# Altium schematic symbol library radxa_c200_io_board_v1.11_Library.SchLib: 111 symbols (part 1 of 2)
Pins are listed as number, name and electrical type; pins without a type are passive.

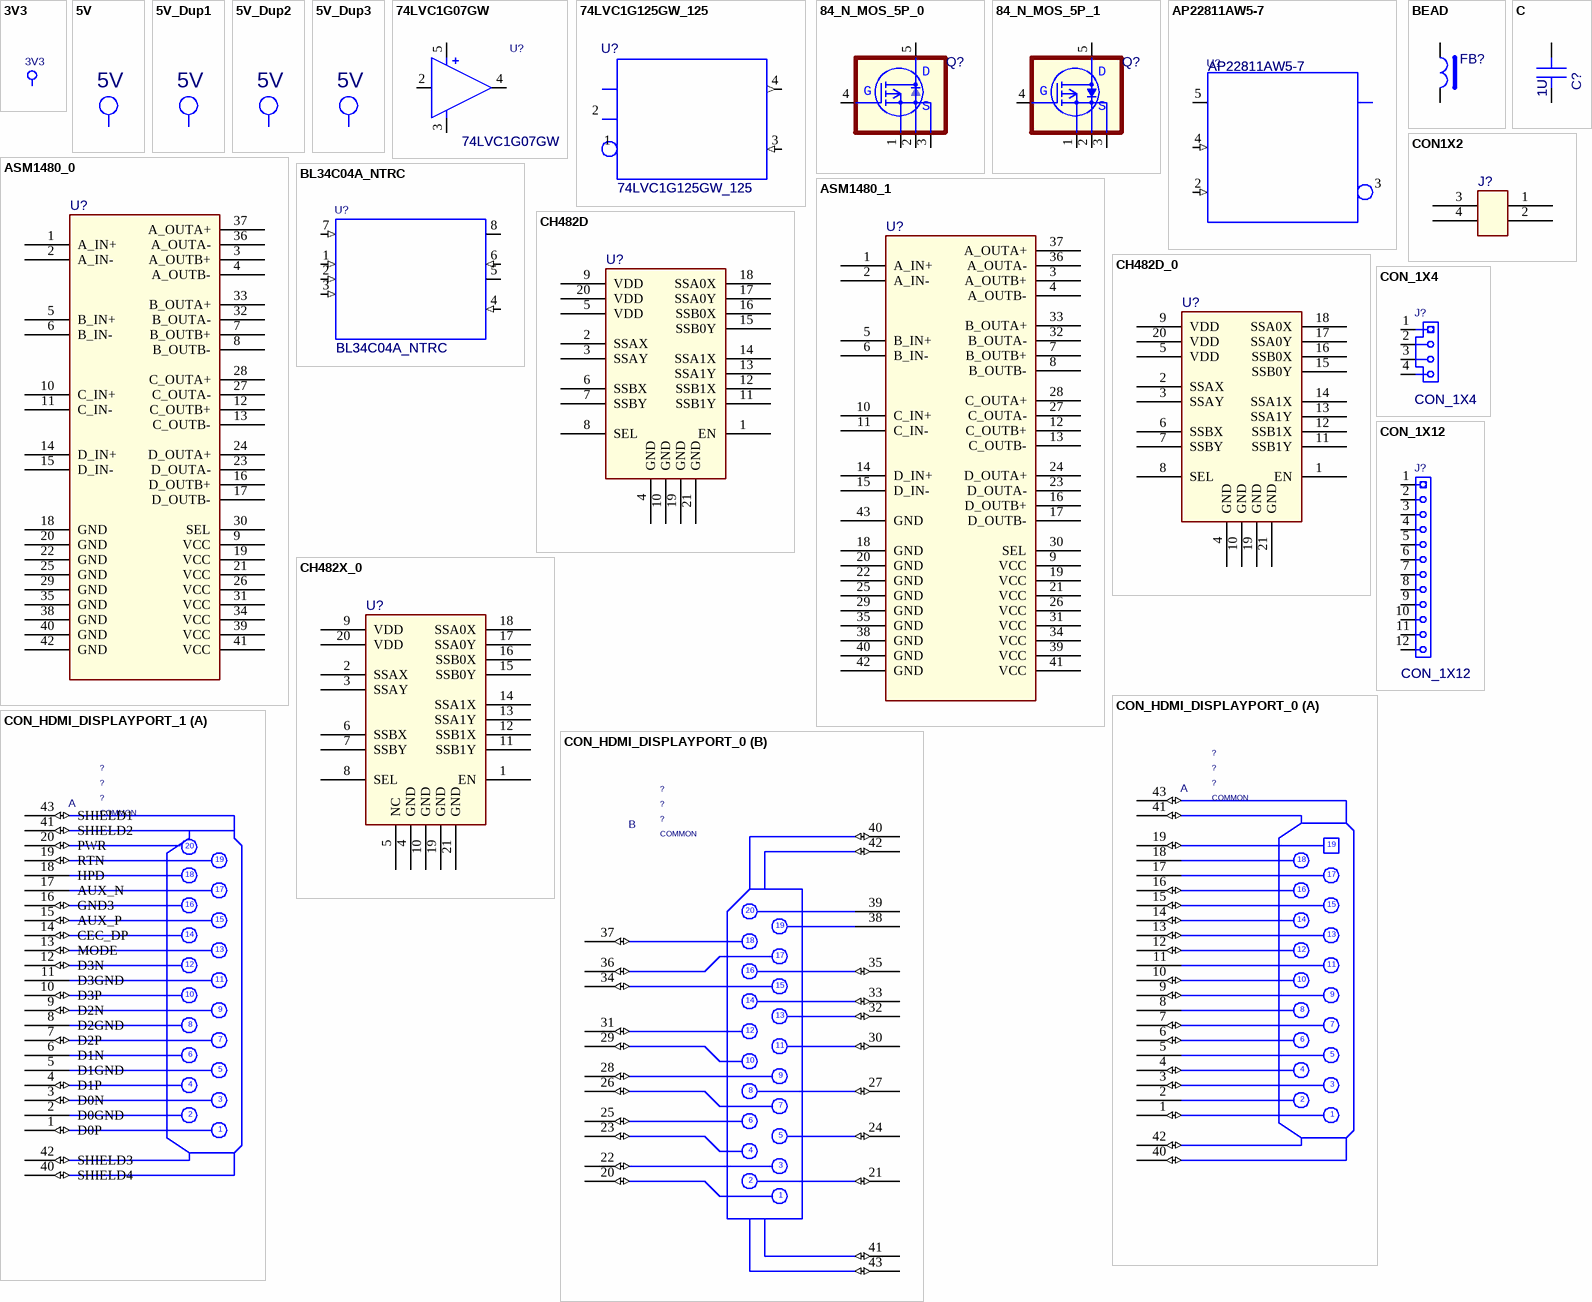
[diagram p0: symbols 3V3 to CON_HDMI_DISPLAYPORT_1]

## 3V3
designator *  HDL_POWER: 3V3  (hidden comment: *)  (graphical)
VOLTAGE: 3.3V; BODY_TYPE: PLUMBING; OriginalSymbolOrigin: (-50,0); PATH: ?
pins: $PIN0 (power) hidden to $PIN0

## 5V
designator *  HDL_POWER: 5V  (hidden comment: *)  (graphical)
BODY_TYPE: PLUMBING; OriginalSymbolOrigin: (-25,0); VOLTAGE: 5V; PATH: ?
pins: $PIN0 (power) hidden to $PIN0

## 5V_Dup1
designator *  HDL_POWER: 5V  (hidden comment: *)  (graphical)
BODY_TYPE: PLUMBING; OriginalSymbolOrigin: (-25,0); VOLTAGE: 5V; PATH: ?
pins: $PIN0 (power) hidden to $PIN0

## 5V_Dup2
designator *  HDL_POWER: 5V  (hidden comment: *)  (graphical)
OriginalSymbolOrigin: (-25,0); BODY_TYPE: PLUMBING; PATH: ?; VOLTAGE: 5V
pins: $PIN0 (power) hidden to $PIN0

## 5V_Dup3
designator *  HDL_POWER: 5V  (hidden comment: *)  (graphical)
OriginalSymbolOrigin: (-25,0); BODY_TYPE: PLUMBING; PATH: ?; VOLTAGE: 5V
pins: $PIN0 (power) hidden to $PIN0

## 74LVC1G07GW
designator U?
OriginalSymbolOrigin: (-100,100); NC: 1; SKU: COMMON; PLACEMENT_NOTE: ?; PATH: ?; PACK_TYPE: ?; NV_PN: ?; NV_NAME: ?; FUNCTION: ?; ASSEMBLY: ?; Value: 74LVC1G07GW
footprint SC70_5
pins: 2 A (io), 3 GND (io), 4 Y (io), 5 VCC (power)

## 74LVC1G125GW_125
designator U?
OriginalSymbolOrigin: (-300,200); ASSEMBLY: ?; FUNCTION: ?; NV_NAME: ?; NV_PN: ?; PACK_TYPE: ?; PATH: ?; PLACEMENT_NOTE: ?; SKU: COMMON; Value: 74LVC1G125GW_125
footprint SC70_5
pins: 1 OE* (in), 2 IN (in), 3 GND (in), 4 OUT (out), 5 VCC (power) hidden to VCC

## 84_N_MOS_5P_0
designator Q?
pins: 1 S1, 2 S2, 3 S3, 4 G, 5 D
text: S

## 84_N_MOS_5P_1
designator Q?
pins: 1 S1, 2 S2, 3 S3, 4 G, 5 D
text: S

## AP22811AW5-7
designator U?
OriginalSymbolOrigin: (-250,250); ASSEMBLY: ?; MAX_CURRENT: ?; MAX_VOLTAGE: ?; NV_NAME: ?; NV_PN: ?; OUTPUT_VOLTAGE: ?; PACK_TYPE: ?; PATH: ?; PLACEMENT_NOTE: ?; SKU: COMMON; TYPE: ?; Value: AP22811AW5-7
footprint SOT23_5
pins: 1 OUT (power) hidden to OUT, 2 GND (in), 3 OC* (out), 4 EN (in), 5 IN (power)

## ASM1480_0
designator U?
footprint QFN42
pins: 1 A_IN+, 2 A_IN-, 3 A_OUTB+, 4 A_OUTB-, 5 B_IN+, 6 B_IN-, 7 B_OUTB+, 8 B_OUTB-, 9 VCC (power), 10 C_IN+, 11 C_IN-, 12 C_OUTB+, 13 C_OUTB-, 14 D_IN+, 15 D_IN-, 16 D_OUTB+, 17 D_OUTB-, 18 GND (power), 19 VCC (power), 20 GND (power), 21 VCC (power), 22 GND (power), 23 D_OUTA-, 24 D_OUTA+, 25 GND (power), 26 VCC (power), 27 C_OUTA-, 28 C_OUTA+, 29 GND (power), 30 SEL, 31 VCC (power), 32 B_OUTA-, 33 B_OUTA+, 34 VCC (power), 35 GND (power), 36 A_OUTA-, 37 A_OUTA+, 38 GND (power), 39 VCC (power), 40 GND (power), 41 VCC (power), 42 GND (power)

## ASM1480_1
designator U?
footprint QFN42
pins: 1 A_IN+, 2 A_IN-, 3 A_OUTB+, 4 A_OUTB-, 5 B_IN+, 6 B_IN-, 7 B_OUTB+, 8 B_OUTB-, 9 VCC (power), 10 C_IN+, 11 C_IN-, 12 C_OUTB+, 13 C_OUTB-, 14 D_IN+, 15 D_IN-, 16 D_OUTB+, 17 D_OUTB-, 18 GND (power), 19 VCC (power), 20 GND (power), 21 VCC (power), 22 GND (power), 23 D_OUTA-, 24 D_OUTA+, 25 GND (power), 26 VCC (power), 27 C_OUTA-, 28 C_OUTA+, 29 GND (power), 30 SEL, 31 VCC (power), 32 B_OUTA-, 33 B_OUTA+, 34 VCC (power), 35 GND (power), 36 A_OUTA-, 37 A_OUTA+, 38 GND (power), 39 VCC (power), 40 GND (power), 41 VCC (power), 42 GND (power), 43 GND (power)

## BEAD
designator FB?
pins: 1, 2

## BL34C04A_NTRC
designator U?
OriginalSymbolOrigin: (-250,200); SPEED_GRADE: ?; SKU: COMMON; POW: ?; PLACEMENT_NOTE: ?; PATH: ?; PACK_TYPE: ?; NV_PN: ?; NV_NAME: ?; ASSEMBLY: ?; Value: BL34C04A_NTRC
footprint DFN8_0D5_1D6
pins: 1 A0 (in), 2 A1 (in), 3 A2 (in), 4 GND (in), 5 SDA (io), 6 SCL (in), 7 WP (in), 8 VCC (power)

## C
designator C?, comment 1U
PARTS: 1; OriginalSymbolOrigin: (0,30); PKG_TYPE: CAP2-100-250; LEVEL: STD; PINSWAP: (A,B); Value: 1U
pins: 1 A, 2 B

## CH482D
designator U?
footprint QFN20_0D5_2D5
pins: 1 EN, 2 SSAX, 3 SSAY, 4 GND (power), 5 VDD (power), 6 SSBX, 7 SSBY, 8 SEL, 9 VDD (power), 10 GND (power), 11 SSB1Y, 12 SSB1X, 13 SSA1Y, 14 SSA1X, 15 SSB0Y, 16 SSB0X, 17 SSA0Y, 18 SSA0X, 19 GND (power), 20 VDD (power), 21 GND (power)

## CH482D_0
designator U?
footprint QFN20_0D5_2D5
pins: 1 EN, 2 SSAX, 3 SSAY, 4 GND (power), 5 VDD (power), 6 SSBX, 7 SSBY, 8 SEL, 9 VDD (power), 10 GND (power), 11 SSB1Y, 12 SSB1X, 13 SSA1Y, 14 SSA1X, 15 SSB0Y, 16 SSB0X, 17 SSA0Y, 18 SSA0X, 19 GND (power), 20 VDD (power), 21 GND (power)

## CH482X_0
designator U?
footprint QFN20_0D5_2D5
pins: 1 EN, 2 SSAX, 3 SSAY, 4 GND (power), 5 NC, 6 SSBX, 7 SSBY, 8 SEL, 9 VDD (power), 10 GND (power), 11 SSB1Y, 12 SSB1X, 13 SSA1Y, 14 SSA1X, 15 SSB0Y, 16 SSB0X, 17 SSA0Y, 18 SSA0X, 19 GND (power), 20 VDD (power), 21 GND (power)

## CON1X2
designator J?
pins: 1, 2, 3, 4

## CON_1X4
designator J?
OriginalSymbolOrigin: (-50,50); ANGLE: ?; ASSEMBLY: ?; GENDER: ?; LATCHING: ?; MAX_CURRENT: ?; MAX_VOLTAGE: ?; NV_NAME: ?; NV_PN: ?; PACK_TYPE: ?; PATH: ?; PITCH: ?; PLACEMENT_NOTE: ?; REFLOW: ?; SHROUDED: ?; SKU: COMMON; Value: CON_1X4
footprint CON_TH1X4_1D25_STA
pins: 1 (io), 2 (io), 3 (io), 4 (io)

## CON_1X12
designator J?
OriginalSymbolOrigin: (0,300); ANGLE: ?; ASSEMBLY: ?; GENDER: ?; LATCHING: ?; MAX_CURRENT: ?; MAX_VOLTAGE: ?; NV_NAME: ?; NV_PN: ?; PACK_TYPE: ?; PATH: ?; PITCH: ?; PLACEMENT_NOTE: ?; REFLOW: ?; SHROUDED: ?; SKU: COMMON; Value: CON_1X12
footprint CON_TH12X1_2D54_LIE
pins: 1 (io), 2 (io), 3 (io), 4 (io), 5 (io), 6 (io), 7 (io), 8 (io), 9 (io), 10 (io), 11 (io), 12 (io)

## CON_HDMI_DISPLAYPORT_0
designator ?, comment SKU: COMMON  (hidden comment: CON_HDMI_DISPLAYPORT)
OriginalSymbolOrigin: (-450,800); SHROUDED: ?; SHIELDED: ?; REFLOW: ?; PLACEMENT_NOTE: ?; PITCH: ?; PATH: ?; PACK_TYPE: ?; NV_PN: ?; NV_NAME: ?; MAX_VOLTAGE: ?; MAX_CURRENT: ?; LATCHING: ?; GENDER: ?; EMI_GROUND_TAB: ?; ASSEMBLY: ?; ANGLE: ?; Value: CON_HDMI_DISPLAYPORT
part A pins: 1 D2 (io), 2 D2_SHIELD (power), 3 D2* (io), 4 D1 (io), 5 D1_SHIELD (power), 6 D1* (io), 7 D0 (io), 8 D0_SHIELD (power), 9 D0* (io), 10 CK (io), 11 CK_SHIELD (power), 12 CK* (io), 13 CEC_HDMI (io), 14 RESERVED (io), 15 SCL (io), 16 SDA (io), 17 DDC_CEC_GND (power), 18 5V (power), 19 HP_DET (io), 40 SHIELD4 (io), 41 SHIELD2 (io), 42 SHIELD3 (io), 43 SHIELD1 (io)
part B pins: 20 LANE_0P (io), 21 GND_1 (io), 22 LANE_0N (io), 23 LANE_1P (io), 24 GND_2 (io), 25 LANE_1N (io), 26 LANE_2P (io), 27 GND_3 (io), 28 LANE_2N (io), 29 LANE_3P (io), 30 GND_4 (io), 31 LANE_3N (io), 32 MODE (io), 33 CEC_DP (io), 34 AUXP (io), 35 GND_7 (io), 36 AUXN (io), 37 HPD (io), 38 PWR_RET (power), 39 PWR (power), 40 SHIELD4 (io), 41 SHIELD2 (io), 42 SHIELD3 (io), 43 SHIELD1 (io)

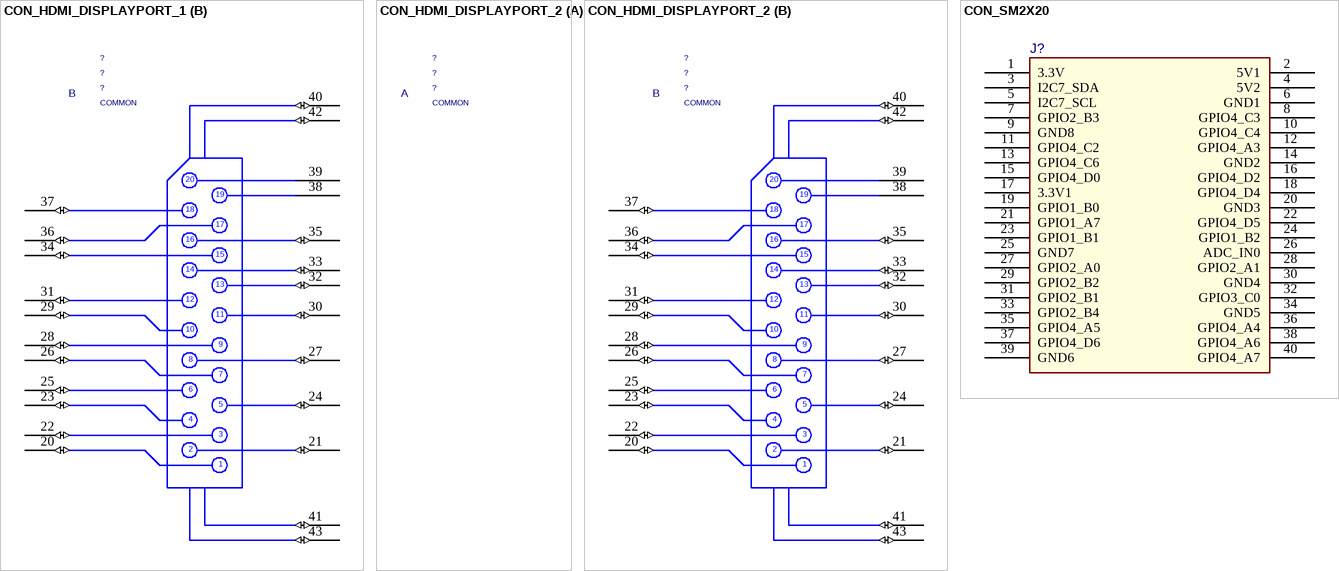
[diagram p1: symbols CON_HDMI_DISPLAYPORT_1 to CON_SM2X20]

## CON_HDMI_DISPLAYPORT_1
designator ?, comment SKU: COMMON  (hidden comment: CON_HDMI_DISPLAYPORT)
OriginalSymbolOrigin: (-450,800); SHROUDED: ?; SHIELDED: ?; REFLOW: ?; PLACEMENT_NOTE: ?; PITCH: ?; PATH: ?; PACK_TYPE: ?; NV_PN: ?; NV_NAME: ?; MAX_VOLTAGE: ?; MAX_CURRENT: ?; LATCHING: ?; GENDER: ?; EMI_GROUND_TAB: ?; ASSEMBLY: ?; ANGLE: ?; Value: CON_HDMI_DISPLAYPORT
part A pins: 1 D0P (io), 2 D0GND (power), 3 D0N (io), 4 D1P (io), 5 D1GND (power), 6 D1N (power), 7 D2P (io), 8 D2GND (power), 9 D2N (io), 10 D3P (io), 11 D3GND (power), 12 D3N (io), 13 MODE (io), 14 CEC_DP (io), 15 AUX_P (io), 16 GND3 (io), 17 AUX_N (power), 18 HPD (power), 19 RTN (io), 20 PWR (io), 40 SHIELD4 (io), 41 SHIELD2 (io), 42 SHIELD3 (io), 43 SHIELD1 (io)
part B pins: 20 LANE_0P (io), 21 GND_1 (io), 22 LANE_0N (io), 23 LANE_1P (io), 24 GND_2 (io), 25 LANE_1N (io), 26 LANE_2P (io), 27 GND_3 (io), 28 LANE_2N (io), 29 LANE_3P (io), 30 GND_4 (io), 31 LANE_3N (io), 32 MODE (io), 33 CEC_DP (io), 34 AUXP (io), 35 GND_7 (io), 36 AUXN (io), 37 HPD (io), 38 PWR_RET (power), 39 PWR (power), 40 SHIELD4 (io), 41 SHIELD2 (io), 42 SHIELD3 (io), 43 SHIELD1 (io)

## CON_HDMI_DISPLAYPORT_2
designator ?, comment SKU: COMMON  (hidden comment: CON_HDMI_DISPLAYPORT)
OriginalSymbolOrigin: (-450,800); SHROUDED: ?; SHIELDED: ?; REFLOW: ?; PLACEMENT_NOTE: ?; PITCH: ?; PATH: ?; PACK_TYPE: ?; NV_PN: ?; NV_NAME: ?; MAX_VOLTAGE: ?; MAX_CURRENT: ?; LATCHING: ?; GENDER: ?; EMI_GROUND_TAB: ?; ASSEMBLY: ?; ANGLE: ?; Value: CON_HDMI_DISPLAYPORT
part B pins: 20 LANE_0P (io), 21 GND_1 (io), 22 LANE_0N (io), 23 LANE_1P (io), 24 GND_2 (io), 25 LANE_1N (io), 26 LANE_2P (io), 27 GND_3 (io), 28 LANE_2N (io), 29 LANE_3P (io), 30 GND_4 (io), 31 LANE_3N (io), 32 MODE (io), 33 CEC_DP (io), 34 AUXP (io), 35 GND_7 (io), 36 AUXN (io), 37 HPD (io), 38 PWR_RET (power), 39 PWR (power), 40 SHIELD4 (io), 41 SHIELD2 (io), 42 SHIELD3 (io), 43 SHIELD1 (io)
part B text: 19; 18; 17; 16; 15; 14; 13; 12; 11; 10; 9; 8; 7; 6; 5; 4; 3; 2; 1

## CON_SM2X20
designator J?
pins: 1 3.3V, 2 5V1, 3 I2C7_SDA, 4 5V2, 5 I2C7_SCL, 6 GND1, 7 GPIO2_B3, 8 GPIO4_C3, 9 GND8, 10 GPIO4_C4, 11 GPIO4_C2, 12 GPIO4_A3, 13 GPIO4_C6, 14 GND2, 15 GPIO4_D0, 16 GPIO4_D2, 17 3.3V1, 18 GPIO4_D4, 19 GPIO1_B0, 20 GND3, 21 GPIO1_A7, 22 GPIO4_D5, 23 GPIO1_B1, 24 GPIO1_B2, 25 GND7, 26 ADC_IN0, 27 GPIO2_A0, 28 GPIO2_A1, 29 GPIO2_B2, 30 GND4, 31 GPIO2_B1, 32 GPIO3_C0, 33 GPIO2_B4, 34 GND5, 35 GPIO4_A5, 36 GPIO4_A4, 37 GPIO4_D6, 38 GPIO4_A6, 39 GND6, 40 GPIO4_A7

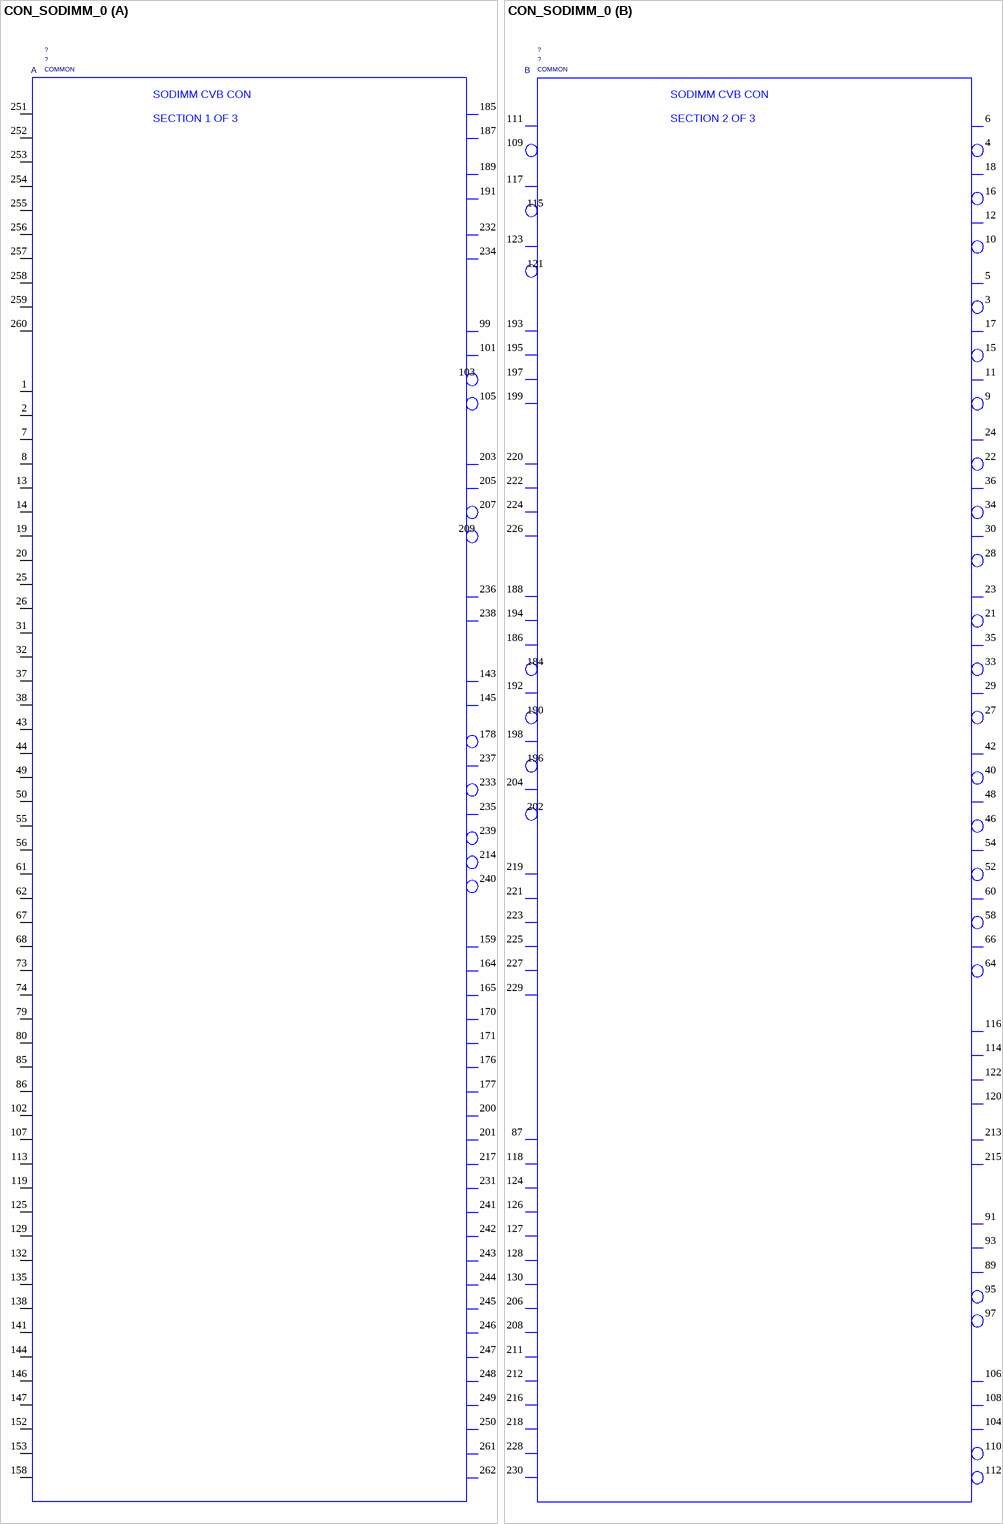
[diagram p2: symbol CON_SODIMM_0]

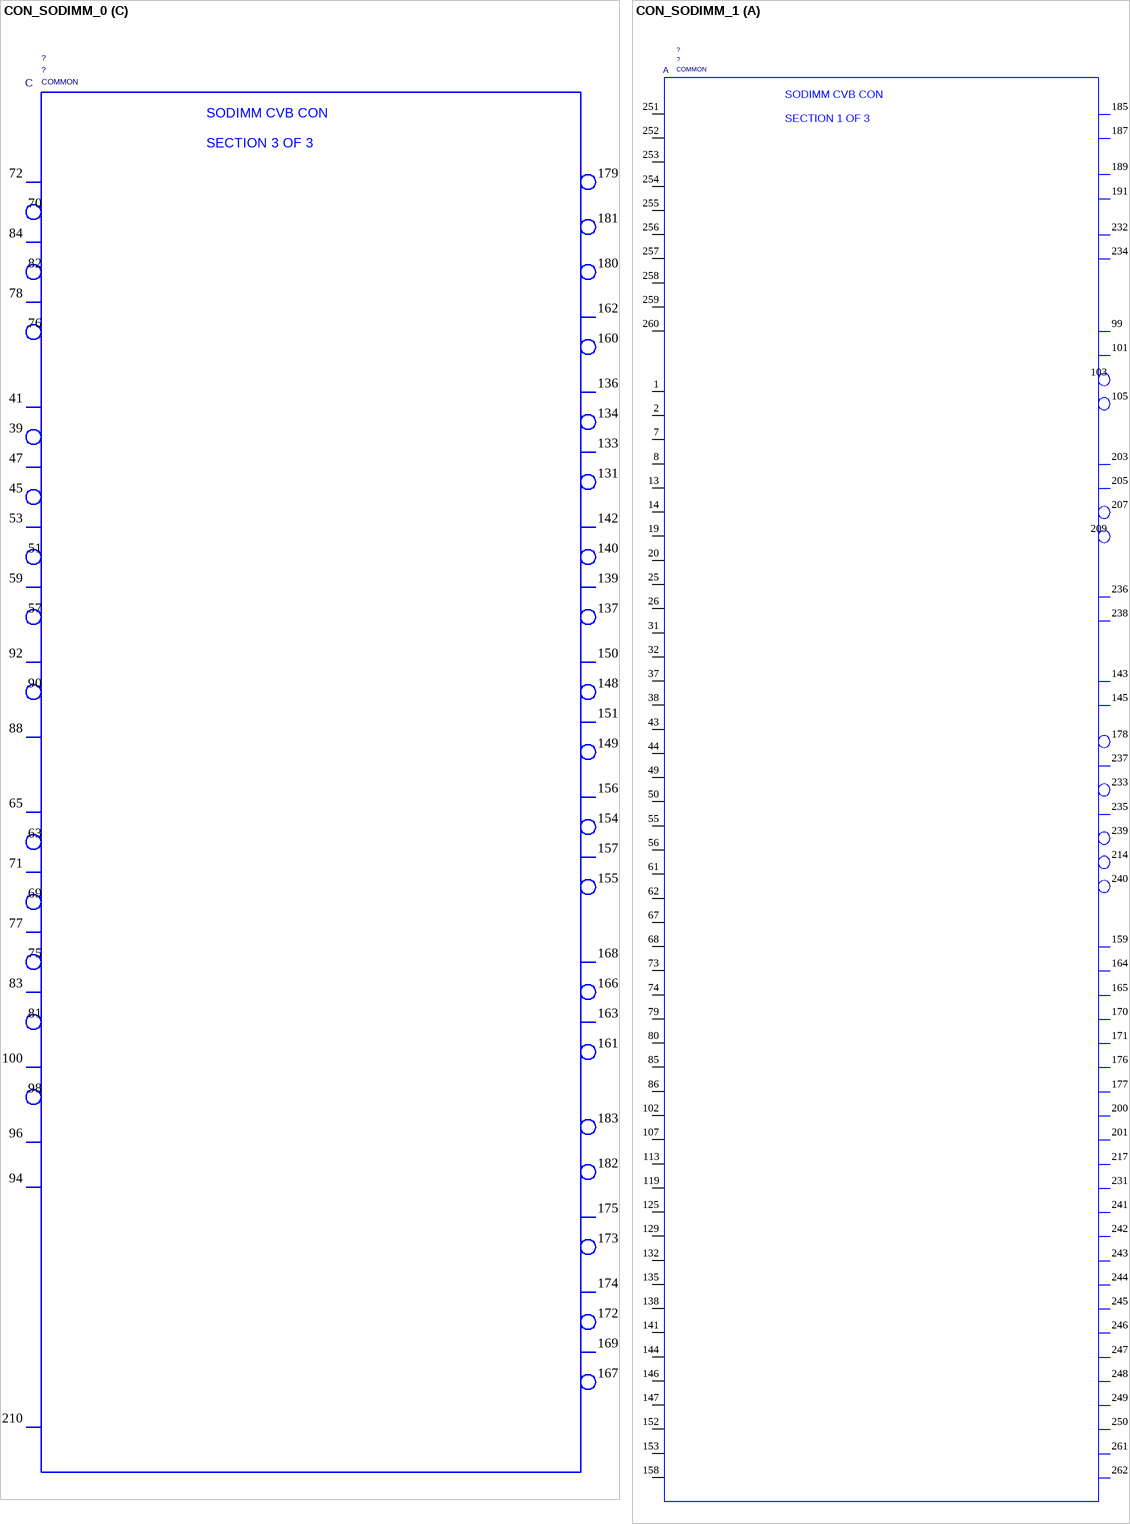
[diagram p3: symbols CON_SODIMM_0 to CON_SODIMM_1]

## CON_SODIMM_0
designator ?, comment SKU: COMMON  (hidden comment: CON_SODIMM_260)
OriginalSymbolOrigin: (-950,2300); ANGLE: ?; ASSEMBLY: ?; EMI_GROUND_TAB: ?; GENDER: ?; LATCHING: ?; MAX_CURRENT: ?; MAX_VOLTAGE: ?; NV_NAME: ?; NV_PN: ?; PACK_TYPE: ?; PATH: ?; PITCH: ?; PLACEMENT_NOTE: ?; REFLOW: ?; SHIELDED: ?; SHROUDED: ?; Value: CON_SODIMM_260
part A pins: 1 GND1 (io), 2 GND2 (io), 7 GND3 (io), 8 GND4 (io), 13 GND5 (io), 14 GND6 (io), 19 GND7 (io), 20 GND8 (io), 25 GND9 (io), 26 GND10 (io), 31 GND11 (io), 32 GND12 (io), 37 GND13 (io), 38 GND14 (io), 43 GND15 (io), 44 GND16 (io), 49 GND17 (io), 50 GND18 (io), 55 GND19 (io), 56 GND20 (io), 61 GND21 (io), 62 GND22 (io), 67 GND23 (io), 68 GND24 (io), 73 GND25 (io), 74 GND26 (io), 79 GND27 (io), 80 GND28 (io), 85 GND29 (io), 86 GND30 (io), 99 UART3_TXD (io), 101 UART3_RXD (io), 102 GND31 (io), 103 UART3_RTS (io), 105 UART3_CTS (io), 107 GND32 (io), 113 GND33 (io), 119 GND34 (io), 125 GND35 (io), 129 GND36 (io), 132 GND37 (io), 135 GND38 (io), 138 GND39 (io), 141 GND40 (io), 143 CAN_RX (io), 144 GND41 (io), 145 CAN_TX (io), 146 GND42 (io), 147 GND43 (io), 152 GND44 (io), 153 GND45 (io), 158 GND46 (io), 159 GND47 (io), 164 GND48 (io), 165 GND49 (io), 170 GND50 (io), 171 GND51 (io), 176 GND52 (io), 177 GND53 (io), 178 GPIO_PA6 (io), 185 GEN1_I2C_SCL (io), 187 GEN1_I2C_SDA (io), 189 GEN2_I2C_SCL (io), 191 GEN2_I2C_SDA (io), 200 GND54 (io), 201 GND55 (io), 203 UART2_TXD (io), 205 UART2_RXD (io), 207 UART2_RTS (io), 209 UART2_CTS (io), 214 FORCE_RECOVERY* (io), 217 GND56-MODULE-ID (io), 231 GND57 (io), 232 GEN3_I2C_SCL (io), 233 SHUTDOWN_REQ* (io), 234 GEN3_I2C_SDA (io), 235 PMIC_BBAT (io), 236 UART1_TXD (io), 237 POWER_EN (io), 238 UART1_RXD (io), 239 SYS_RESET_IN* (io), 240 BUTTON_PWR_ON* (io), 241 GND58 (io), 242 GND59 (io), 243 GND60 (io), 244 GND61 (io), 245 GND62 (io), 246 GND63 (io), 247 GND64 (io), 248 GND65 (io), 249 GND66 (io), 250 GND67 (io), 251 VDD_IN1 (power), 252 VDD_IN2 (power), 253 VDD_IN3 (power), 254 VDD_IN4 (power), 255 VDD_IN5 (power), 256 VDD_IN6 (power), 257 VDD_IN7 (power), 258 VDD_IN8 (power), 259 VDD_IN9 (power), 260 VDD_IN10 (power), 261 MNT1 (io), 262 MNT2 (io)
part B pins: 3 CSI_B_D0_N (io), 4 CSI_A_D0_N (io), 5 CSI_B_D0_P (io), 6 CSI_A_D0_P (io), 9 CSI_B_CLK_N (io), 10 CSI_A_CLK_N (io), 11 CSI_B_CLK_P (io), 12 CSI_A_CLK_P (io), 15 CSI_B_D1_N (io), 16 CSI_A_D1_N (io), 17 CSI_B_D1_P (io), 18 CSI_A_D1_P (io), 21 CSI_F_D0_N (io), 22 CSI_E_D0_N (io), 23 CSI_F_D0_P (io), 24 CSI_E_D0_P (io), 27 CSI_F_CLK_N (io), 28 CSI_E_CLK_N (io), 29 CSI_F_CLK_P (io), 30 CSI_E_CLK_P (io), 33 CSI_F_D1_N (io), 34 CSI_E_D1_N (io), 35 CSI_F_D1_P (io), 36 CSI_E_D1_P (io), 40 CSI_D_D0_N (io), 42 CSI_D_D0_P (io), 46 CSI_C_D0_N (io), 48 CSI_C_D0_P (io), 52 CSI_C_CLK_N (io), 54 CSI_C_CLK_P (io), 58 CSI_C_D1_N (io), 60 CSI_C_D1_P (io), 64 CSI_D_D1_N (io), 66 CSI_D_D1_P (io), 87 USB_VBUS_EN0 (io), 89 SPI1_MOSI (io), 91 SPI1_SCK (io), 93 SPI1_MISO (io), 95 SPI1_CS0 (io), 97 SPI1_CS1 (io), 104 SPI2_MOSI (io), 106 SPI2_SCK (io), 108 SPI2_MISO (io), 109 USB0_DN (io), 110 SPI2_CS0 (io), 111 USB0_DP (io), 112 SPI2_CS1 (io), 114 CAM1_PWDN (io), 115 USB1_DN (io), 116 CAM1_MCLK (io), 117 USB1_DP (io), 118 CAM_AF_EN (io), 120 CAM2_PWDN (io), 121 USB2_DN (io), 122 CAM2_MCLK (io), 123 USB2_DP (io), 124 GPIO_PH6 (io), 126 GPS_EN (io), 127 NFC_INT (io), 128 AP_WAKE_NFC (io), 130 NFC_EN (io), 184 GBE_MDI0_N (io), 186 GBE_MDI0_P (io), 188 GBE_LED0 (io), 190 GBE_MDI1_N (io), 192 GBE_MDI1_P (io), 193 DAP4_DOUT (io), 194 GBE_LED1 (io), 195 DAP4_DIN (io), 196 GBE_MDI2_N (io), 197 DAP4_FS (io), 198 GBE_MDI2_P (io), 199 DAP4_SCLK (io), 202 GBE_MDI3_N (io), 204 GBE_MDI3_P (io), 206 LCD_BL_PWM (io), 208 GPIO_PZ2 (io), 211 AUD_MCLK (io), 212 LCD_BL_EN (io), 213 CAM_I2C_SCL (io), 215 CAM_I2C_SDA (io), 216 GPIO_PZ0 (io), 218 LCD_TE (io), 219 SDMMC3_DAT0 (io), 220 DAP3_DOUT (io), 221 SDMMC3_DAT1 (io), 222 DAP3_DIN (io), 223 SDMMC3_DAT2 (io), 224 DAP3_FS (io), 225 SDMMC3_DAT3 (io), 226 DAP3_SCLK (io), 227 SDMMC3_CMD (io), 228 GPIO_PE6 (io), 229 SDMMC3_CLK (io), 230 GPIO_PE7 (io)
part C pins: 39 EDP_TXD0_N (io), 41 EDP_TXD0_P (io), 45 EDP_TXD1_N (io), 47 EDP_TXD1_P (io), 51 EDP_TXD2_N (io), 53 EDP_TXD2_P (io), 57 EDP_TXD3_N (io), 59 EDP_TXD3_P (io), 63 HDMI_TXD0_N (io), 65 HDMI_TXD0_P (io), 69 HDMI_TXD1_N (io), 70 DSI_A_D0_N (io), 71 HDMI_TXD1_P (io), 72 DSI_A_D0_P (io), 75 HDMI_TXD2_N (io), 76 DSI_A_CLK_N (io), 77 HDMI_TXD2_P (io), 78 DSI_A_CLK_P (io), 81 HDMI_TXC_N (io), 82 DSI_A_D1_N (io), 83 HDMI_TXC_P (io), 84 DSI_A_D1_P (io), 88 DP_HPD (io), 90 DP_AUX_CH0_N (io), 92 DP_AUX_CH0_P (io), 94 HDMI_CEC (io), 96 HDMI_INT_DP_HPD (io), 98 DP_AUX_CH1_N (io), 100 DP_AUX_CH1_P (io), 131 PEX_RX4_N (io), 133 PEX_RX4_P (io), 134 PEX_TX4_N (io), 136 PEX_TX4_P (io), 137 PEX_RX3_N (io), 139 PEX_RX3_P (io), 140 PEX_TX3_N (io), 142 PEX_TX3_P (io), 148 PEX_TX2_N (io), 149 PEX_RX2_N (io), 150 PEX_TX2_P (io), 151 PEX_RX2_P (io), 154 PEX_TX1_N (io), 155 PEX_RX1_N (io), 156 PEX_TX1_P (io), 157 PEX_RX1_P (io), 160 PEX_CLK1_N (io), 161 PEX_RX6_N (io), 162 PEX_CLK1_P (io), 163 PEX_RX6_P (io), 166 PEX_TX6_N (io), 167 PEX_RX0_N (io), 168 PEX_TX6_P (io), 169 PEX_RX0_P (io), 172 PEX_TX0_N (io), 173 PEX_CLK2_N (io), 174 PEX_TX0_P (io), 175 PEX_CLK2_P (io), 179 PEX_WAKE (io), 180 PEX_L0_CLKREQ (io), 181 PEX_L0_RST (io), 182 PEX_L1_CLKREQ (io), 183 PEX_L1_RST (io), 210 CLK_32K_OUT (io)
part A text: SODIMM CVB CON; SECTION 1 OF 3
part B text: SODIMM CVB CON; SECTION 2 OF 3
part C text: SODIMM CVB CON; SECTION 3 OF 3

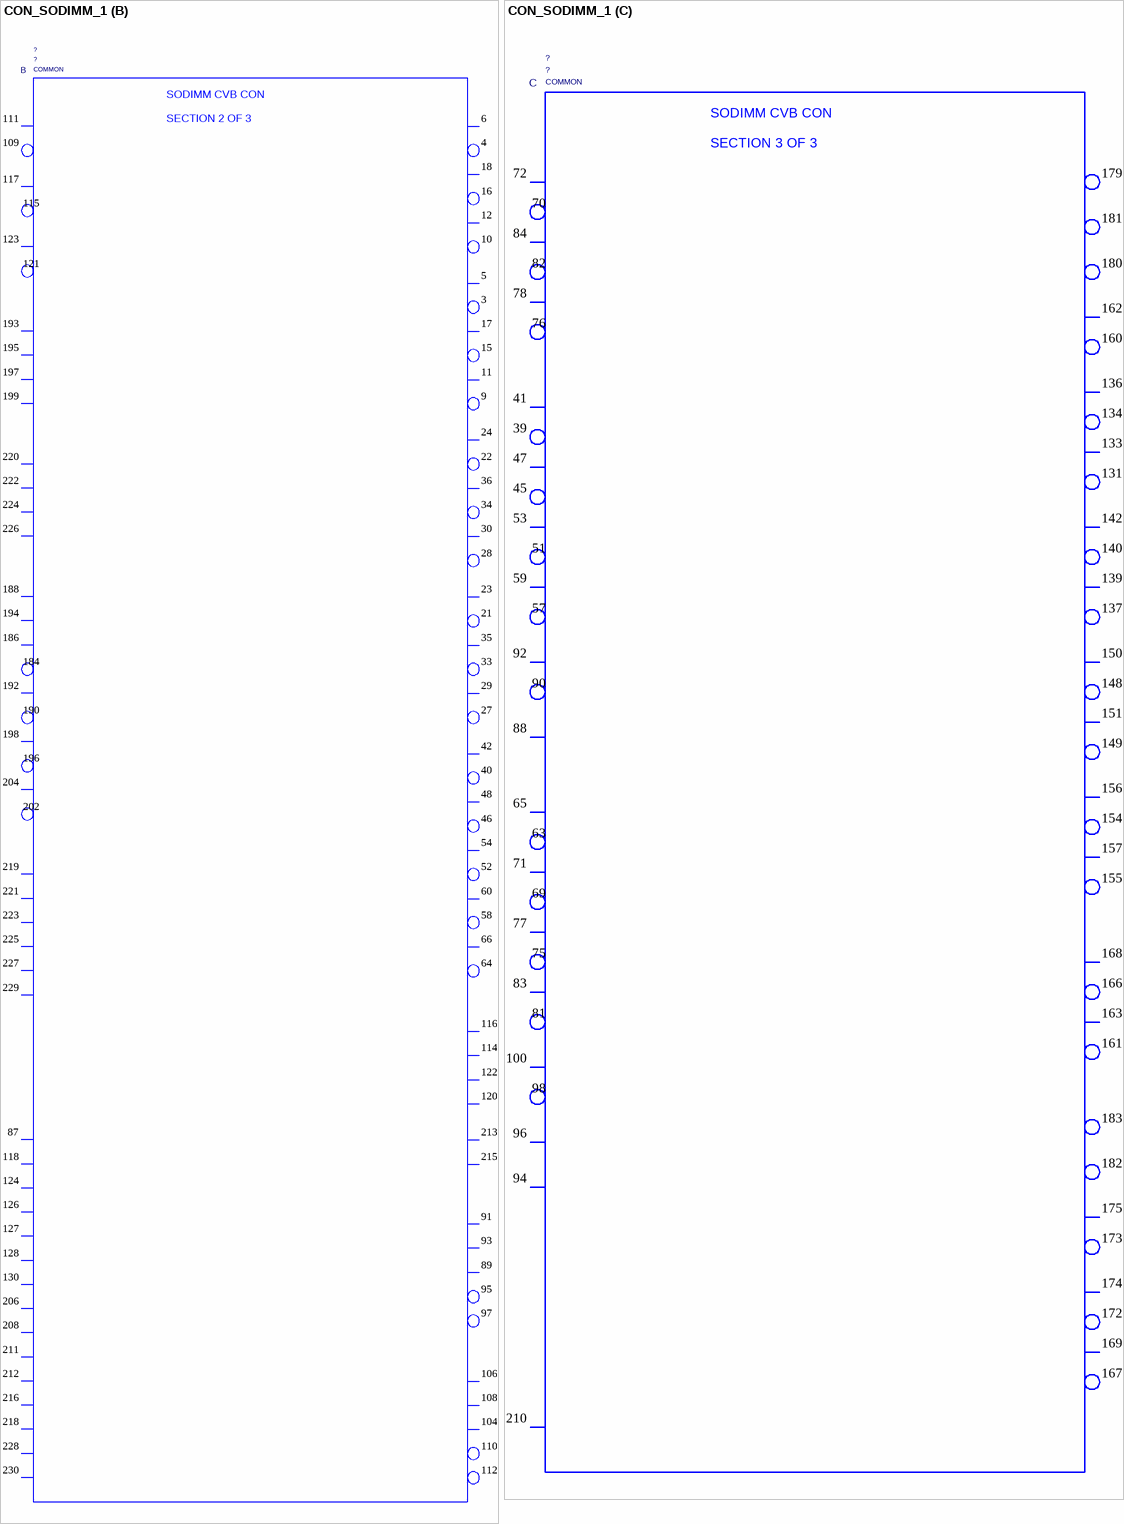
[diagram p4: symbol CON_SODIMM_1]

## CON_SODIMM_1
designator ?, comment SKU: COMMON  (hidden comment: CON_SODIMM_260)
OriginalSymbolOrigin: (-950,2300); ANGLE: ?; ASSEMBLY: ?; EMI_GROUND_TAB: ?; GENDER: ?; LATCHING: ?; MAX_CURRENT: ?; MAX_VOLTAGE: ?; NV_NAME: ?; NV_PN: ?; PACK_TYPE: ?; PATH: ?; PITCH: ?; PLACEMENT_NOTE: ?; REFLOW: ?; SHIELDED: ?; SHROUDED: ?; Value: CON_SODIMM_260
part A pins: 1 GND1 (io), 2 GND2 (io), 7 GND3 (io), 8 GND4 (io), 13 GND5 (io), 14 GND6 (io), 19 GND7 (io), 20 GND8 (io), 25 GND9 (io), 26 GND10 (io), 31 GND11 (io), 32 GND12 (io), 37 GND13 (io), 38 GND14 (io), 43 GND15 (io), 44 GND16 (io), 49 GND17 (io), 50 GND18 (io), 55 GND19 (io), 56 GND20 (io), 61 GND21 (io), 62 GND22 (io), 67 GND23 (io), 68 GND24 (io), 73 GND25 (io), 74 GND26 (io), 79 GND27 (io), 80 GND28 (io), 85 GND29 (io), 86 GND30 (io), 99 UART3_TXD (io), 101 UART3_RXD (io), 102 GND31 (io), 103 UART3_RTS (io), 105 UART3_CTS (io), 107 GND32 (io), 113 GND33 (io), 119 GND34 (io), 125 GND35 (io), 129 GND36 (io), 132 GND37 (io), 135 GND38 (io), 138 GND39 (io), 141 GND40 (io), 143 CAN_RX (io), 144 GND41 (io), 145 CAN_TX (io), 146 GND42 (io), 147 GND43 (io), 152 GND44 (io), 153 GND45 (io), 158 GND46 (io), 159 GND47 (io), 164 GND48 (io), 165 GND49 (io), 170 GND50 (io), 171 GND51 (io), 176 GND52 (io), 177 GND53 (io), 178 GPIO_PA6 (io), 185 GEN1_I2C_SCL (io), 187 GEN1_I2C_SDA (io), 189 GEN2_I2C_SCL (io), 191 GEN2_I2C_SDA (io), 200 GND54 (io), 201 GND55 (io), 203 UART2_TXD (io), 205 UART2_RXD (io), 207 UART2_RTS (io), 209 UART2_CTS (io), 214 FORCE_RECOVERY* (io), 217 GND56-MODULE-ID (io), 231 GND57 (io), 232 GEN3_I2C_SCL (io), 233 SHUTDOWN_REQ* (io), 234 GEN3_I2C_SDA (io), 235 PMIC_BBAT (io), 236 UART1_TXD (io), 237 POWER_EN (io), 238 UART1_RXD (io), 239 SYS_RESET_IN* (io), 240 BUTTON_PWR_ON* (io), 241 GND58 (io), 242 GND59 (io), 243 GND60 (io), 244 GND61 (io), 245 GND62 (io), 246 GND63 (io), 247 GND64 (io), 248 GND65 (io), 249 GND66 (io), 250 GND67 (io), 251 VDD_IN1 (power), 252 VDD_IN2 (power), 253 VDD_IN3 (power), 254 VDD_IN4 (power), 255 VDD_IN5 (power), 256 VDD_IN6 (power), 257 VDD_IN7 (power), 258 VDD_IN8 (power), 259 VDD_IN9 (power), 260 VDD_IN10 (power), 261 MNT1 (io), 262 MNT2 (io)
part B pins: 3 CSI_B_D0_N (io), 4 CSI_A_D0_N (io), 5 CSI_B_D0_P (io), 6 CSI_A_D0_P (io), 9 CSI_B_CLK_N (io), 10 CSI_A_CLK_N (io), 11 CSI_B_CLK_P (io), 12 CSI_A_CLK_P (io), 15 CSI_B_D1_N (io), 16 CSI_A_D1_N (io), 17 CSI_B_D1_P (io), 18 CSI_A_D1_P (io), 21 CSI_F_D0_N (io), 22 CSI_E_D0_N (io), 23 CSI_F_D0_P (io), 24 CSI_E_D0_P (io), 27 CSI_F_CLK_N (io), 28 CSI_E_CLK_N (io), 29 CSI_F_CLK_P (io), 30 CSI_E_CLK_P (io), 33 CSI_F_D1_N (io), 34 CSI_E_D1_N (io), 35 CSI_F_D1_P (io), 36 CSI_E_D1_P (io), 40 CSI_D_D0_N (io), 42 CSI_D_D0_P (io), 46 CSI_C_D0_N (io), 48 CSI_C_D0_P (io), 52 CSI_C_CLK_N (io), 54 CSI_C_CLK_P (io), 58 CSI_C_D1_N (io), 60 CSI_C_D1_P (io), 64 CSI_D_D1_N (io), 66 CSI_D_D1_P (io), 87 USB_VBUS_EN0 (io), 89 SPI1_MOSI (io), 91 SPI1_SCK (io), 93 SPI1_MISO (io), 95 SPI1_CS0 (io), 97 SPI1_CS1 (io), 104 SPI2_MOSI (io), 106 SPI2_SCK (io), 108 SPI2_MISO (io), 109 USB0_DN (io), 110 SPI2_CS0 (io), 111 USB0_DP (io), 112 SPI2_CS1 (io), 114 CAM1_PWDN (io), 115 USB1_DN (io), 116 CAM1_MCLK (io), 117 USB1_DP (io), 118 CAM_AF_EN (io), 120 CAM2_PWDN (io), 121 USB2_DN (io), 122 CAM2_MCLK (io), 123 USB2_DP (io), 124 GPIO_PH6 (io), 126 GPS_EN (io), 127 NFC_INT (io), 128 AP_WAKE_NFC (io), 130 NFC_EN (io), 184 GBE_MDI0_N (io), 186 GBE_MDI0_P (io), 188 GBE_LED0 (io), 190 GBE_MDI1_N (io), 192 GBE_MDI1_P (io), 193 DAP4_DOUT (io), 194 GBE_LED1 (io), 195 DAP4_DIN (io), 196 GBE_MDI2_N (io), 197 DAP4_FS (io), 198 GBE_MDI2_P (io), 199 DAP4_SCLK (io), 202 GBE_MDI3_N (io), 204 GBE_MDI3_P (io), 206 LCD_BL_PWM (io), 208 GPIO_PZ2 (io), 211 AUD_MCLK (io), 212 LCD_BL_EN (io), 213 CAM_I2C_SCL (io), 215 CAM_I2C_SDA (io), 216 GPIO_PZ0 (io), 218 LCD_TE (io), 219 SDMMC3_DAT0 (io), 220 DAP3_DOUT (io), 221 SDMMC3_DAT1 (io), 222 DAP3_DIN (io), 223 SDMMC3_DAT2 (io), 224 DAP3_FS (io), 225 SDMMC3_DAT3 (io), 226 DAP3_SCLK (io), 227 SDMMC3_CMD (io), 228 GPIO_PE6 (io), 229 SDMMC3_CLK (io), 230 GPIO_PE7 (io)
part C pins: 39 EDP_TXD0_N (io), 41 EDP_TXD0_P (io), 45 EDP_TXD1_N (io), 47 EDP_TXD1_P (io), 51 EDP_TXD2_N (io), 53 EDP_TXD2_P (io), 57 EDP_TXD3_N (io), 59 EDP_TXD3_P (io), 63 HDMI_TXD0_N (io), 65 HDMI_TXD0_P (io), 69 HDMI_TXD1_N (io), 70 DSI_A_D0_N (io), 71 HDMI_TXD1_P (io), 72 DSI_A_D0_P (io), 75 HDMI_TXD2_N (io), 76 DSI_A_CLK_N (io), 77 HDMI_TXD2_P (io), 78 DSI_A_CLK_P (io), 81 HDMI_TXC_N (io), 82 DSI_A_D1_N (io), 83 HDMI_TXC_P (io), 84 DSI_A_D1_P (io), 88 DP_HPD (io), 90 DP_AUX_CH0_N (io), 92 DP_AUX_CH0_P (io), 94 HDMI_CEC (io), 96 HDMI_INT_DP_HPD (io), 98 DP_AUX_CH1_N (io), 100 DP_AUX_CH1_P (io), 131 PEX_RX4_N (io), 133 PEX_RX4_P (io), 134 PEX_TX4_N (io), 136 PEX_TX4_P (io), 137 PEX_RX3_N (io), 139 PEX_RX3_P (io), 140 PEX_TX3_N (io), 142 PEX_TX3_P (io), 148 PEX_TX2_N (io), 149 PEX_RX2_N (io), 150 PEX_TX2_P (io), 151 PEX_RX2_P (io), 154 PEX_TX1_N (io), 155 PEX_RX1_N (io), 156 PEX_TX1_P (io), 157 PEX_RX1_P (io), 160 PEX_CLK1_N (io), 161 PEX_RX6_N (io), 162 PEX_CLK1_P (io), 163 PEX_RX6_P (io), 166 PEX_TX6_N (io), 167 PEX_RX0_N (io), 168 PEX_TX6_P (io), 169 PEX_RX0_P (io), 172 PEX_TX0_N (io), 173 PEX_CLK2_N (io), 174 PEX_TX0_P (io), 175 PEX_CLK2_P (io), 179 PEX_WAKE (io), 180 PEX_L0_CLKREQ (io), 181 PEX_L0_RST (io), 182 PEX_L1_CLKREQ (io), 183 PEX_L1_RST (io), 210 CLK_32K_OUT (io)
part A text: SODIMM CVB CON; SECTION 1 OF 3
part B text: SODIMM CVB CON; SECTION 2 OF 3
part C text: SODIMM CVB CON; SECTION 3 OF 3

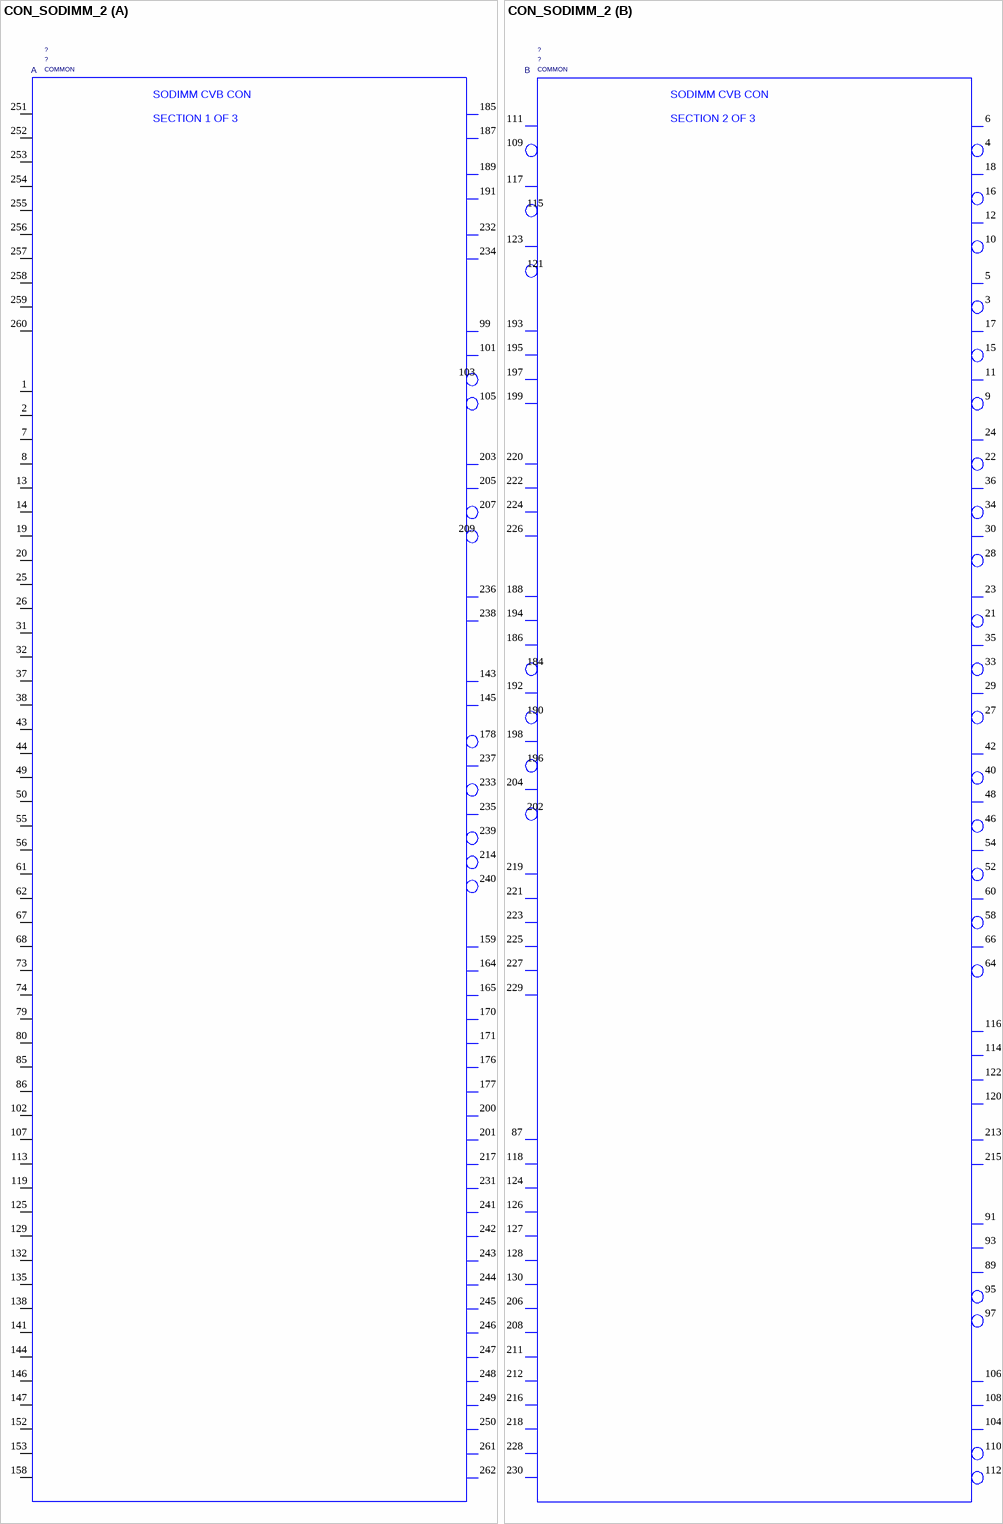
[diagram p5: symbol CON_SODIMM_2]

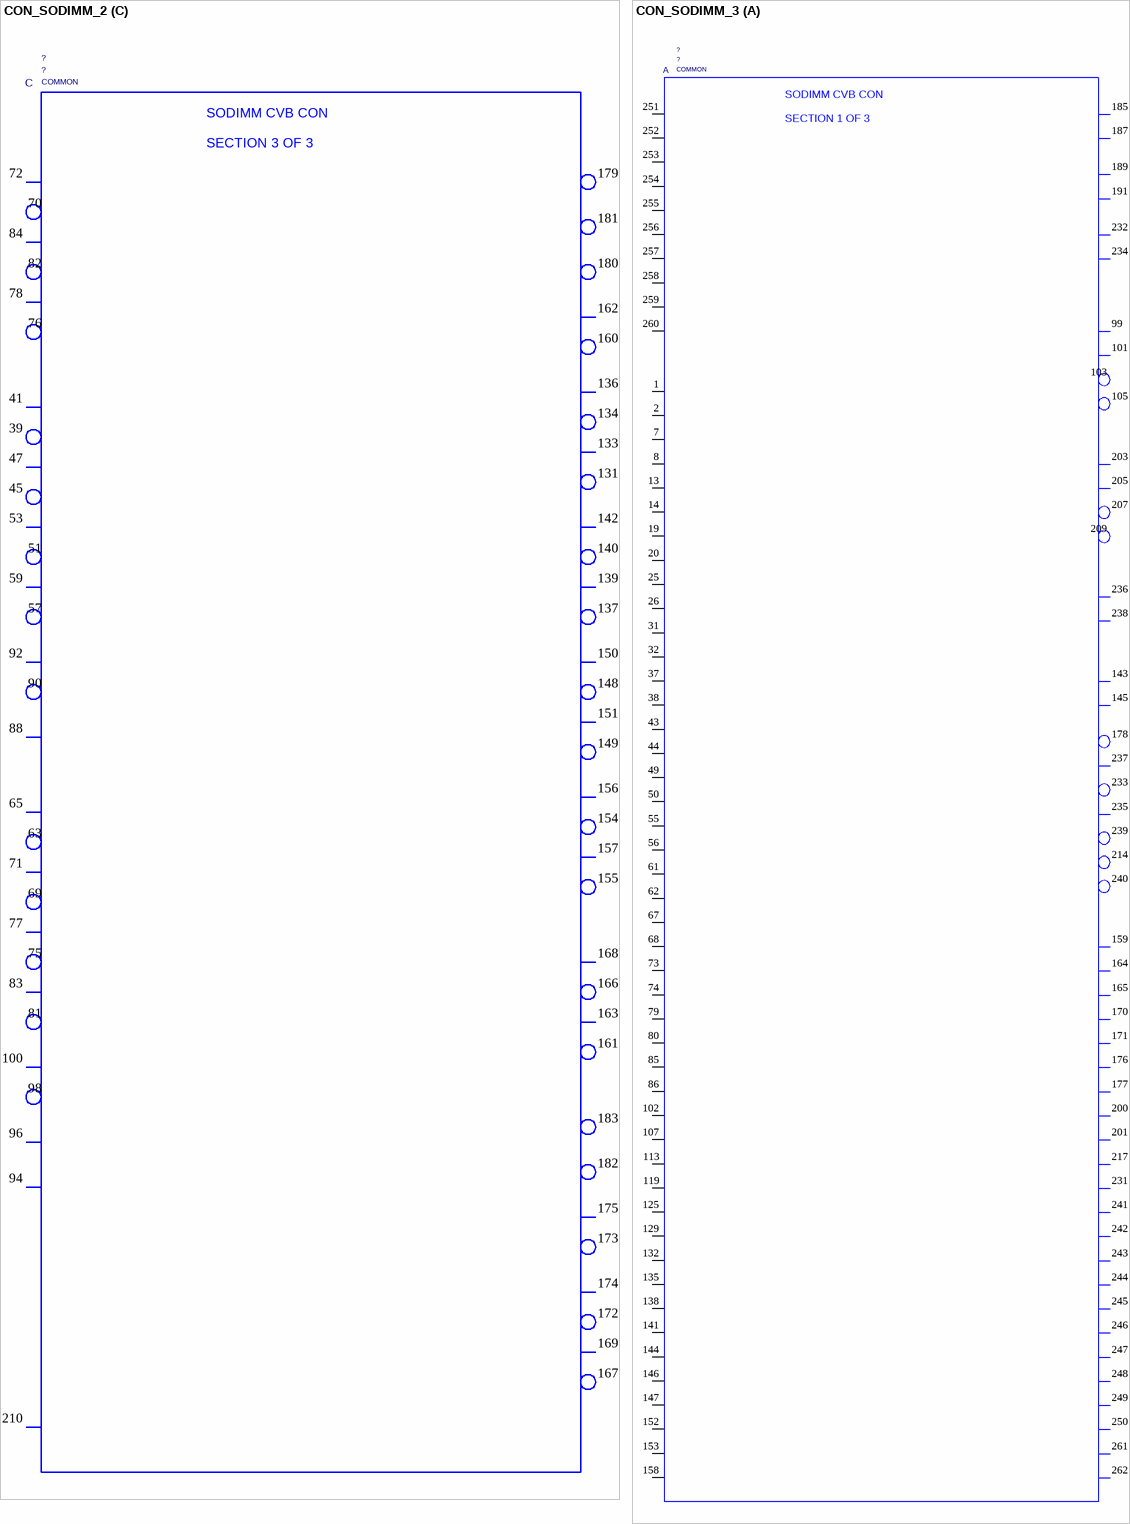
[diagram p6: symbols CON_SODIMM_2 to CON_SODIMM_3]

## CON_SODIMM_2
designator ?, comment SKU: COMMON  (hidden comment: CON_SODIMM_260)
OriginalSymbolOrigin: (-950,2300); SHROUDED: ?; SHIELDED: ?; REFLOW: ?; PLACEMENT_NOTE: ?; PITCH: ?; PATH: ?; PACK_TYPE: ?; NV_PN: ?; NV_NAME: ?; MAX_VOLTAGE: ?; MAX_CURRENT: ?; LATCHING: ?; GENDER: ?; EMI_GROUND_TAB: ?; ASSEMBLY: ?; ANGLE: ?; Value: CON_SODIMM_260
part A pins: 1 GND1 (io), 2 GND2 (io), 7 GND3 (io), 8 GND4 (io), 13 GND5 (io), 14 GND6 (io), 19 GND7 (io), 20 GND8 (io), 25 GND9 (io), 26 GND10 (io), 31 GND11 (io), 32 GND12 (io), 37 GND13 (io), 38 GND14 (io), 43 GND15 (io), 44 GND16 (io), 49 GND17 (io), 50 GND18 (io), 55 GND19 (io), 56 GND20 (io), 61 GND21 (io), 62 GND22 (io), 67 GND23 (io), 68 GND24 (io), 73 GND25 (io), 74 GND26 (io), 79 GND27 (io), 80 GND28 (io), 85 GND29 (io), 86 GND30 (io), 99 UART3_TXD (io), 101 UART3_RXD (io), 102 GND31 (io), 103 UART3_RTS (io), 105 UART3_CTS (io), 107 GND32 (io), 113 GND33 (io), 119 GND34 (io), 125 GND35 (io), 129 GND36 (io), 132 GND37 (io), 135 GND38 (io), 138 GND39 (io), 141 GND40 (io), 143 CAN_RX (io), 144 GND41 (io), 145 CAN_TX (io), 146 GND42 (io), 147 GND43 (io), 152 GND44 (io), 153 GND45 (io), 158 GND46 (io), 159 GND47 (io), 164 GND48 (io), 165 GND49 (io), 170 GND50 (io), 171 GND51 (io), 176 GND52 (io), 177 GND53 (io), 178 GPIO_PA6 (io), 185 GEN1_I2C_SCL (io), 187 GEN1_I2C_SDA (io), 189 GEN2_I2C_SCL (io), 191 GEN2_I2C_SDA (io), 200 GND54 (io), 201 GND55 (io), 203 UART2_TXD (io), 205 UART2_RXD (io), 207 UART2_RTS (io), 209 UART2_CTS (io), 214 FORCE_RECOVERY* (io), 217 GND56 (io), 231 GND57 (io), 232 GEN3_I2C_SCL (io), 233 SHUTDOWN_REQ* (io), 234 GEN3_I2C_SDA (io), 235 PMIC_BBAT (io), 236 UART1_TXD (io), 237 POWER_EN (io), 238 UART1_RXD (io), 239 SYS_RESET_IN* (io), 240 BUTTON_PWR_ON* (io), 241 GND58 (io), 242 GND59 (io), 243 GND60 (io), 244 GND61 (io), 245 GND62 (io), 246 GND63 (io), 247 GND64 (io), 248 GND65 (io), 249 GND66 (io), 250 GND67 (io), 251 VDD_IN1 (power), 252 VDD_IN2 (power), 253 VDD_IN3 (power), 254 VDD_IN4 (power), 255 VDD_IN5 (power), 256 VDD_IN6 (power), 257 VDD_IN7 (power), 258 VDD_IN8 (power), 259 VDD_IN9 (power), 260 VDD_IN10 (power), 261 MNT1 (io), 262 MNT2 (io)
part B pins: 3 CSI_B_D0_N (io), 4 CSI_A_D0_N (io), 5 CSI_B_D0_P (io), 6 CSI_A_D0_P (io), 9 CSI_B_CLK_N (io), 10 CSI_A_CLK_N (io), 11 CSI_B_CLK_P (io), 12 CSI_A_CLK_P (io), 15 CSI_B_D1_N (io), 16 CSI_A_D1_N (io), 17 CSI_B_D1_P (io), 18 CSI_A_D1_P (io), 21 CSI_F_D0_N (io), 22 CSI_E_D0_N (io), 23 CSI_F_D0_P (io), 24 CSI_E_D0_P (io), 27 CSI_F_CLK_N (io), 28 CSI_E_CLK_N (io), 29 CSI_F_CLK_P (io), 30 CSI_E_CLK_P (io), 33 CSI_F_D1_N (io), 34 CSI_E_D1_N (io), 35 CSI_F_D1_P (io), 36 CSI_E_D1_P (io), 40 CSI_D_D0_N (io), 42 PCIE2_RX0/CSI_D_D0_P (io), 46 CSI_C_D0_N (io), 48 CSI_C_D0_P (io), 52 CSI_C_CLK_N (io), 54 CSI_C_CLK_P (io), 58 CSI_C_D1_N (io), 60 CSI_C_D1_P (io), 64 CSI_D_D1_N (io), 66 CSI_D_D1_P (io), 87 USB_VBUS_EN0 (io), 89 SPI1_MOSI (io), 91 SPI1_SCK (io), 93 SPI1_MISO (io), 95 SPI1_CS0 (io), 97 SPI1_CS1 (io), 104 SPI2_MOSI (io), 106 SPI2_SCK (io), 108 SPI2_MISO (io), 109 USB0_DN (io), 110 SPI2_CS0 (io), 111 USB0_DP (io), 112 SPI2_CS1 (io), 114 CAM1_PWDN (io), 115 USB1_DN (io), 116 CAM1_MCLK (io), 117 USB1_DP (io), 118 CAM_AF_EN (io), 120 CAM2_PWDN (io), 121 USB2_DN (io), 122 CAM2_MCLK (io), 123 USB2_DP (io), 124 GPIO_PH6 (io), 126 GPS_EN (io), 127 NFC_INT (io), 128 AP_WAKE_NFC (io), 130 NFC_EN (io), 184 GBE_MDI0_N (io), 186 GBE_MDI0_P (io), 188 GBE_LED0 (io), 190 GBE_MDI1_N (io), 192 GBE_MDI1_P (io), 193 DAP4_DOUT (io), 194 GBE_LED1 (io), 195 DAP4_DIN (io), 196 GBE_MDI2_N (io), 197 DAP4_FS (io), 198 GBE_MDI2_P (io), 199 DAP4_SCLK (io), 202 GBE_MDI3_N (io), 204 GBE_MDI3_P (io), 206 LCD_BL_PWM (io), 208 GPIO_PZ2 (io), 211 AUD_MCLK (io), 212 LCD_BL_EN (io), 213 CAM_I2C_SCL (io), 215 CAM_I2C_SDA (io), 216 GPIO_PZ0 (io), 218 LCD_TE (io), 219 SDMMC3_DAT0 (io), 220 DAP3_DOUT (io), 221 SDMMC3_DAT1 (io), 222 DAP3_DIN (io), 223 SDMMC3_DAT2 (io), 224 DAP3_FS (io), 225 SDMMC3_DAT3 (io), 226 DAP3_SCLK (io), 227 SDMMC3_CMD (io), 228 GPIO_PE6 (io), 229 SDMMC3_CLK (io), 230 GPIO_PE7 (io)
part C pins: 39 EDP_TXD0_N (io), 41 EDP_TXD0_P (io), 45 EDP_TXD1_N (io), 47 EDP_TXD1_P (io), 51 EDP_TXD2_N (io), 53 EDP_TXD2_P (io), 57 EDP_TXD3_N (io), 59 EDP_TXD3_P (io), 63 HDMI_TXD0_N (io), 65 HDMI_TXD0_P (io), 69 HDMI_TXD1_N (io), 70 DSI_A_D0_N (io), 71 HDMI_TXD1_P (io), 72 DSI_A_D0_P (io), 75 HDMI_TXD2_N (io), 76 DSI_A_CLK_N (io), 77 HDMI_TXD2_P (io), 78 DSI_A_CLK_P (io), 81 HDMI_TXC_N (io), 82 DSI_A_D1_N (io), 83 HDMI_TXC_P (io), 84 DSI_A_D1_P (io), 88 DP_HPD (io), 90 DP_AUX_CH0_N (io), 92 DP_AUX_CH0_P (io), 94 HDMI_CEC (io), 96 HDMI_INT_DP_HPD (io), 98 DP_AUX_CH1_N (io), 100 DP_AUX_CH1_P (io), 131 PEX_RX4_N (io), 133 PEX_RX4_P (io), 134 PEX_TX4_N (io), 136 PEX_TX4_P (io), 137 PEX_RX3_N (io), 139 PEX_RX3_P (io), 140 PEX_TX3_N (io), 142 PEX_TX3_P (io), 148 PEX_TX2_N (io), 149 PEX_RX2_N (io), 150 PEX_TX2_P (io), 151 PEX_RX2_P (io), 154 PEX_TX1_N (io), 155 PEX_RX1_N (io), 156 PEX_TX1_P (io), 157 PEX_RX1_P (io), 160 PEX_CLK1_N (io), 161 PEX_RX6_N (io), 162 PEX_CLK1_P (io), 163 PEX_RX6_P (io), 166 PEX_TX6_N (io), 167 PEX_RX0_N (io), 168 PEX_TX6_P (io), 169 PEX_RX0_P (io), 172 PEX_TX0_N (io), 173 PEX_CLK2_N (io), 174 PEX_TX0_P (io), 175 PEX_CLK2_P (io), 179 PEX_WAKE (io), 180 PEX_L0_CLKREQ (io), 181 PEX_L0_RST (io), 182 PEX_L1_CLKREQ (io), 183 PEX_L1_RST (io), 210 CLK_32K_OUT (io)
part A text: SODIMM CVB CON; SECTION 1 OF 3
part B text: SODIMM CVB CON; SECTION 2 OF 3
part C text: SODIMM CVB CON; SECTION 3 OF 3

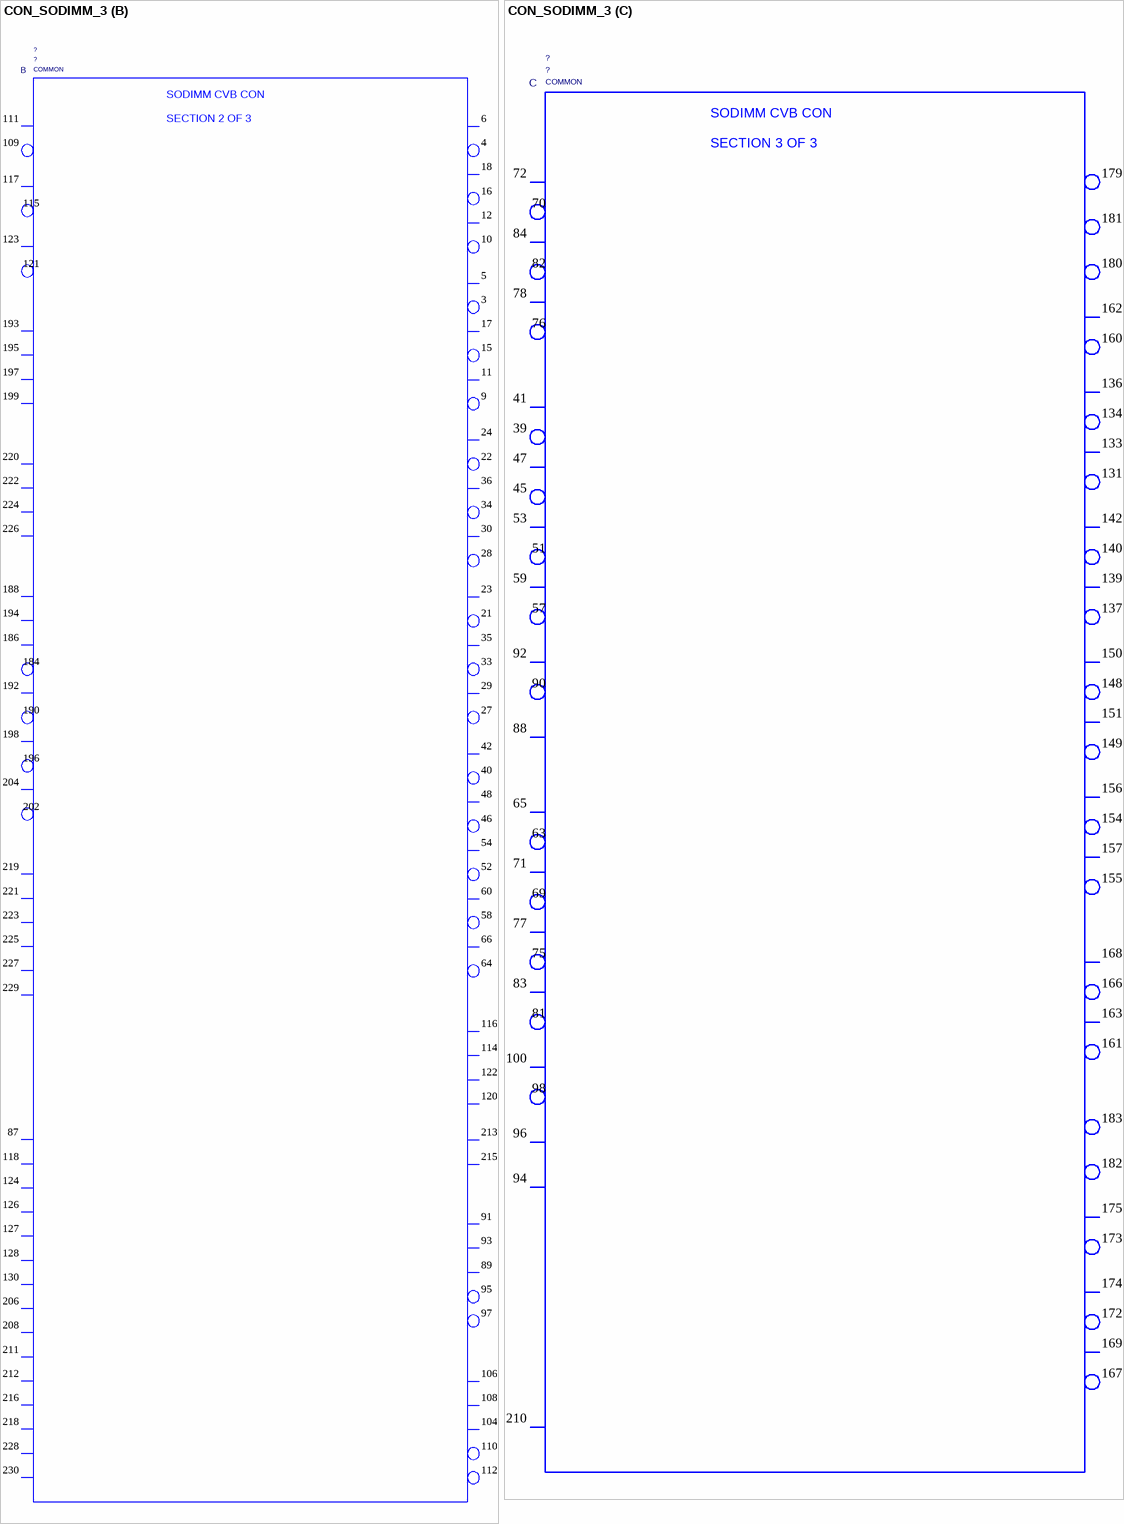
[diagram p7: symbol CON_SODIMM_3]

## CON_SODIMM_3
designator ?, comment SKU: COMMON  (hidden comment: CON_SODIMM_260)
OriginalSymbolOrigin: (-950,2300); SHROUDED: ?; SHIELDED: ?; REFLOW: ?; PLACEMENT_NOTE: ?; PITCH: ?; PATH: ?; PACK_TYPE: ?; NV_PN: ?; NV_NAME: ?; MAX_VOLTAGE: ?; MAX_CURRENT: ?; LATCHING: ?; GENDER: ?; EMI_GROUND_TAB: ?; ASSEMBLY: ?; ANGLE: ?; Value: CON_SODIMM_260
part A pins: 1 GND1 (io), 2 GND2 (io), 7 GND3 (io), 8 GND4 (io), 13 GND5 (io), 14 GND6 (io), 19 GND7 (io), 20 GND8 (io), 25 GND9 (io), 26 GND10 (io), 31 GND11 (io), 32 GND12 (io), 37 GND13 (io), 38 GND14 (io), 43 GND15 (io), 44 GND16 (io), 49 GND17 (io), 50 GND18 (io), 55 GND19 (io), 56 GND20 (io), 61 GND21 (io), 62 GND22 (io), 67 GND23 (io), 68 GND24 (io), 73 GND25 (io), 74 GND26 (io), 79 GND27 (io), 80 GND28 (io), 85 GND29 (io), 86 GND30 (io), 99 UART3_TXD (io), 101 UART3_RXD (io), 102 GND31 (io), 103 UART3_RTS (io), 105 UART3_CTS (io), 107 GND32 (io), 113 GND33 (io), 119 GND34 (io), 125 GND35 (io), 129 GND36 (io), 132 GND37 (io), 135 GND38 (io), 138 GND39 (io), 141 GND40 (io), 143 CAN_RX (io), 144 GND41 (io), 145 CAN_TX (io), 146 GND42 (io), 147 GND43 (io), 152 GND44 (io), 153 GND45 (io), 158 GND46 (io), 159 GND47 (io), 164 GND48 (io), 165 GND49 (io), 170 GND50 (io), 171 GND51 (io), 176 GND52 (io), 177 GND53 (io), 178 GPIO_PA6 (io), 185 GEN1_I2C_SCL (io), 187 GEN1_I2C_SDA (io), 189 GEN2_I2C_SCL (io), 191 GEN2_I2C_SDA (io), 200 GND54 (io), 201 GND55 (io), 203 UART2_TXD (io), 205 UART2_RXD (io), 207 UART2_RTS (io), 209 UART2_CTS (io), 214 FORCE_RECOVERY* (io), 217 GND56 (io), 231 GND57 (io), 232 GEN3_I2C_SCL (io), 233 SHUTDOWN_REQ* (io), 234 GEN3_I2C_SDA (io), 235 PMIC_BBAT (io), 236 UART1_TXD (io), 237 POWER_EN (io), 238 UART1_RXD (io), 239 SYS_RESET_IN* (io), 240 BUTTON_PWR_ON* (io), 241 GND58 (io), 242 GND59 (io), 243 GND60 (io), 244 GND61 (io), 245 GND62 (io), 246 GND63 (io), 247 GND64 (io), 248 GND65 (io), 249 GND66 (io), 250 GND67 (io), 251 VDD_IN1 (power), 252 VDD_IN2 (power), 253 VDD_IN3 (power), 254 VDD_IN4 (power), 255 VDD_IN5 (power), 256 VDD_IN6 (power), 257 VDD_IN7 (power), 258 VDD_IN8 (power), 259 VDD_IN9 (power), 260 VDD_IN10 (power), 261 MNT1 (io), 262 MNT2 (io)
part B pins: 3 CSI_B_D0_N (io), 4 CSI_A_D0_N (io), 5 CSI_B_D0_P (io), 6 CSI_A_D0_P (io), 9 CSI_B_CLK_N (io), 10 CSI_A_CLK_N (io), 11 CSI_B_CLK_P (io), 12 CSI_A_CLK_P (io), 15 CSI_B_D1_N (io), 16 CSI_A_D1_N (io), 17 CSI_B_D1_P (io), 18 CSI_A_D1_P (io), 21 CSI_F_D0_N (io), 22 CSI_E_D0_N (io), 23 CSI_F_D0_P (io), 24 CSI_E_D0_P (io), 27 CSI_F_CLK_N (io), 28 CSI_E_CLK_N (io), 29 CSI_F_CLK_P (io), 30 CSI_E_CLK_P (io), 33 CSI_F_D1_N (io), 34 CSI_E_D1_N (io), 35 CSI_F_D1_P (io), 36 CSI_E_D1_P (io), 40 CSI_D_D0_N (io), 42 PCIE2_RX0/CSI_D_D0_P (io), 46 CSI_C_D0_N (io), 48 CSI_C_D0_P (io), 52 CSI_C_CLK_N (io), 54 CSI_C_CLK_P (io), 58 CSI_C_D1_N (io), 60 CSI_C_D1_P (io), 64 CSI_D_D1_N (io), 66 CSI_D_D1_P (io), 87 USB_VBUS_EN0 (io), 89 SPI1_MOSI (io), 91 SPI1_SCK (io), 93 SPI1_MISO (io), 95 SPI1_CS0 (io), 97 SPI1_CS1 (io), 104 SPI2_MOSI (io), 106 SPI2_SCK (io), 108 SPI2_MISO (io), 109 USB0_DN (io), 110 SPI2_CS0 (io), 111 USB0_DP (io), 112 SPI2_CS1 (io), 114 CAM1_PWDN (io), 115 USB1_DN (io), 116 CAM1_MCLK (io), 117 USB1_DP (io), 118 CAM_AF_EN (io), 120 CAM2_PWDN (io), 121 USB2_DN (io), 122 CAM2_MCLK (io), 123 USB2_DP (io), 124 GPIO_PH6 (io), 126 GPS_EN (io), 127 NFC_INT (io), 128 AP_WAKE_NFC (io), 130 NFC_EN (io), 184 GBE_MDI0_N (io), 186 GBE_MDI0_P (io), 188 GBE_LED0 (io), 190 GBE_MDI1_N (io), 192 GBE_MDI1_P (io), 193 DAP4_DOUT (io), 194 GBE_LED1 (io), 195 DAP4_DIN (io), 196 GBE_MDI2_N (io), 197 DAP4_FS (io), 198 GBE_MDI2_P (io), 199 DAP4_SCLK (io), 202 GBE_MDI3_N (io), 204 GBE_MDI3_P (io), 206 LCD_BL_PWM (io), 208 GPIO_PZ2 (io), 211 AUD_MCLK (io), 212 LCD_BL_EN (io), 213 CAM_I2C_SCL (io), 215 CAM_I2C_SDA (io), 216 GPIO_PZ0 (io), 218 LCD_TE (io), 219 SDMMC3_DAT0 (io), 220 DAP3_DOUT (io), 221 SDMMC3_DAT1 (io), 222 DAP3_DIN (io), 223 SDMMC3_DAT2 (io), 224 DAP3_FS (io), 225 SDMMC3_DAT3 (io), 226 DAP3_SCLK (io), 227 SDMMC3_CMD (io), 228 GPIO_PE6 (io), 229 SDMMC3_CLK (io), 230 GPIO_PE7 (io)
part C pins: 39 EDP_TXD0_N (io), 41 EDP_TXD0_P (io), 45 EDP_TXD1_N (io), 47 EDP_TXD1_P (io), 51 EDP_TXD2_N (io), 53 EDP_TXD2_P (io), 57 EDP_TXD3_N (io), 59 EDP_TXD3_P (io), 63 HDMI_TXD0_N (io), 65 HDMI_TXD0_P (io), 69 HDMI_TXD1_N (io), 70 DSI_A_D0_N (io), 71 HDMI_TXD1_P (io), 72 DSI_A_D0_P (io), 75 HDMI_TXD2_N (io), 76 DSI_A_CLK_N (io), 77 HDMI_TXD2_P (io), 78 DSI_A_CLK_P (io), 81 HDMI_TXC_N (io), 82 DSI_A_D1_N (io), 83 HDMI_TXC_P (io), 84 DSI_A_D1_P (io), 88 DP_HPD (io), 90 DP_AUX_CH0_N (io), 92 DP_AUX_CH0_P (io), 94 HDMI_CEC (io), 96 HDMI_INT_DP_HPD (io), 98 DP_AUX_CH1_N (io), 100 DP_AUX_CH1_P (io), 131 PEX_RX4_N (io), 133 PEX_RX4_P (io), 134 PEX_TX4_N (io), 136 PEX_TX4_P (io), 137 PEX_RX3_N (io), 139 PEX_RX3_P (io), 140 PEX_TX3_N (io), 142 PEX_TX3_P (io), 148 PEX_TX2_N (io), 149 PEX_RX2_N (io), 150 PEX_TX2_P (io), 151 PEX_RX2_P (io), 154 PEX_TX1_N (io), 155 PEX_RX1_N (io), 156 PEX_TX1_P (io), 157 PEX_RX1_P (io), 160 PEX_CLK1_N (io), 161 PEX_RX6_N (io), 162 PEX_CLK1_P (io), 163 PEX_RX6_P (io), 166 PEX_TX6_N (io), 167 PEX_RX0_N (io), 168 PEX_TX6_P (io), 169 PEX_RX0_P (io), 172 PEX_TX0_N (io), 173 PEX_CLK2_N (io), 174 PEX_TX0_P (io), 175 PEX_CLK2_P (io), 179 PEX_WAKE (io), 180 PEX_L0_CLKREQ (io), 181 PEX_L0_RST (io), 182 PEX_L1_CLKREQ (io), 183 PEX_L1_RST (io), 210 CLK_32K_OUT (io)
part A text: SODIMM CVB CON; SECTION 1 OF 3
part B text: SODIMM CVB CON; SECTION 2 OF 3
part C text: SODIMM CVB CON; SECTION 3 OF 3

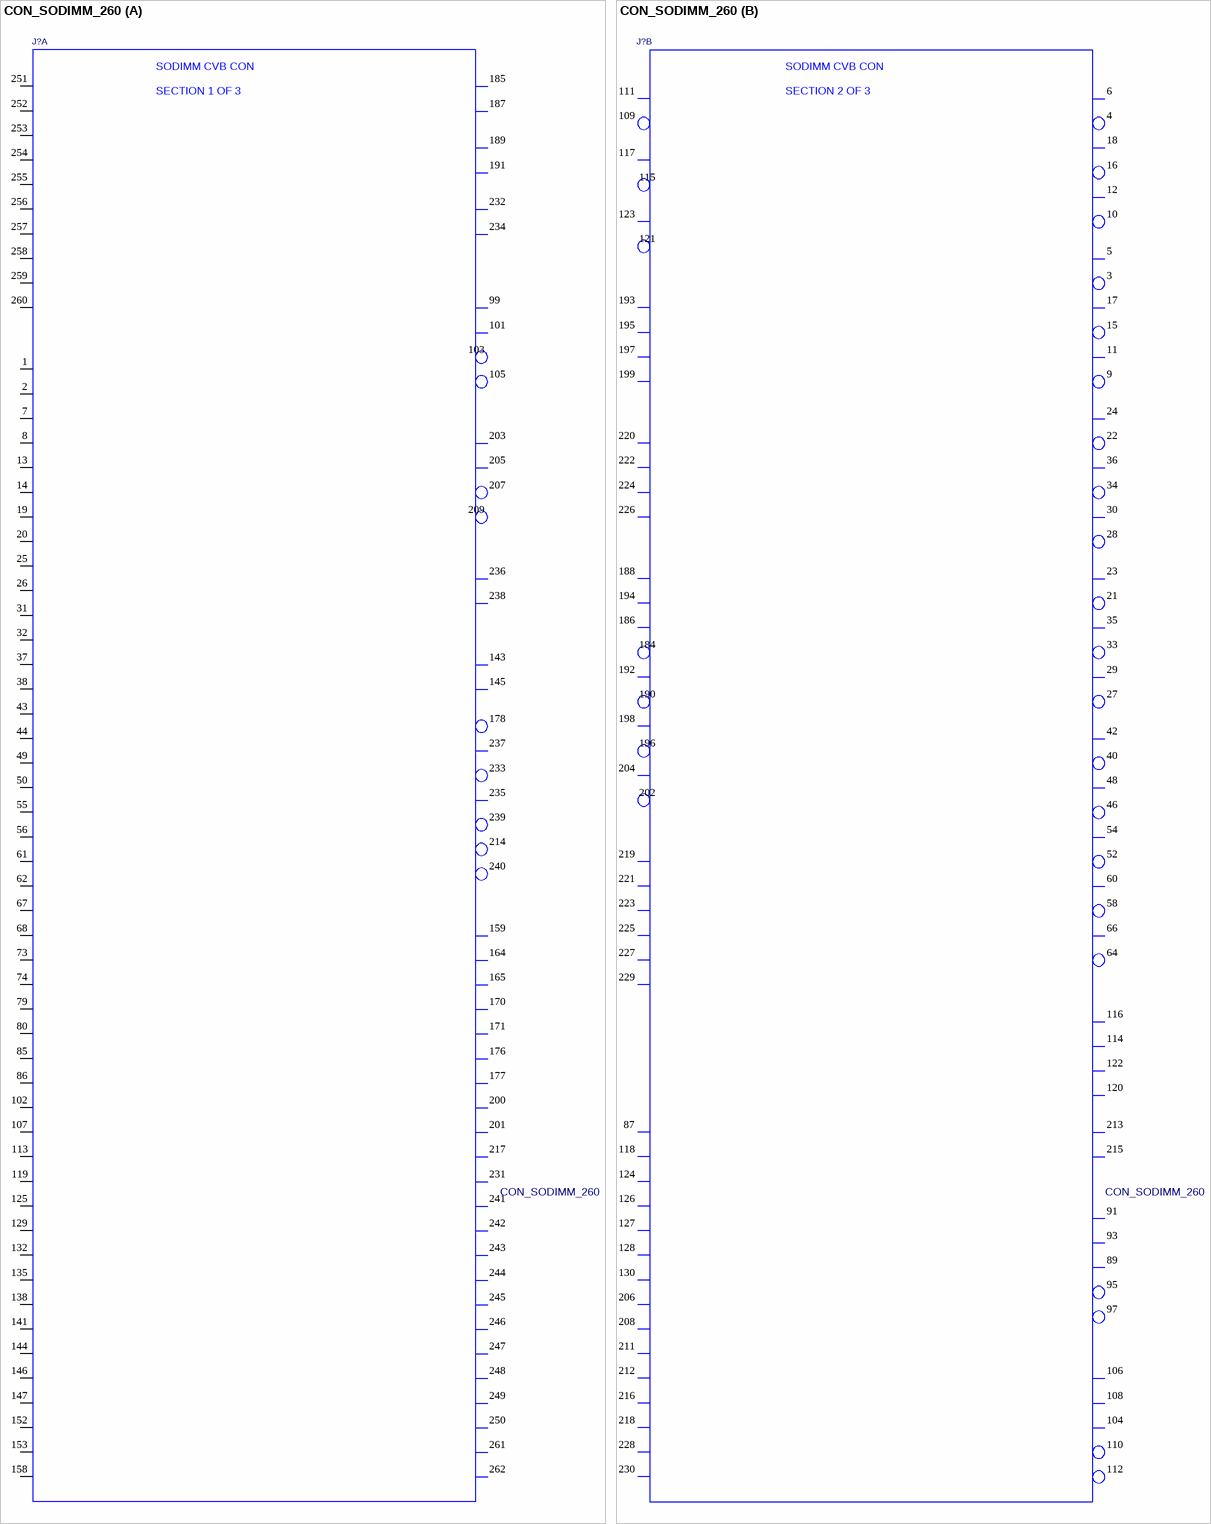
[diagram p8: symbol CON_SODIMM_260]

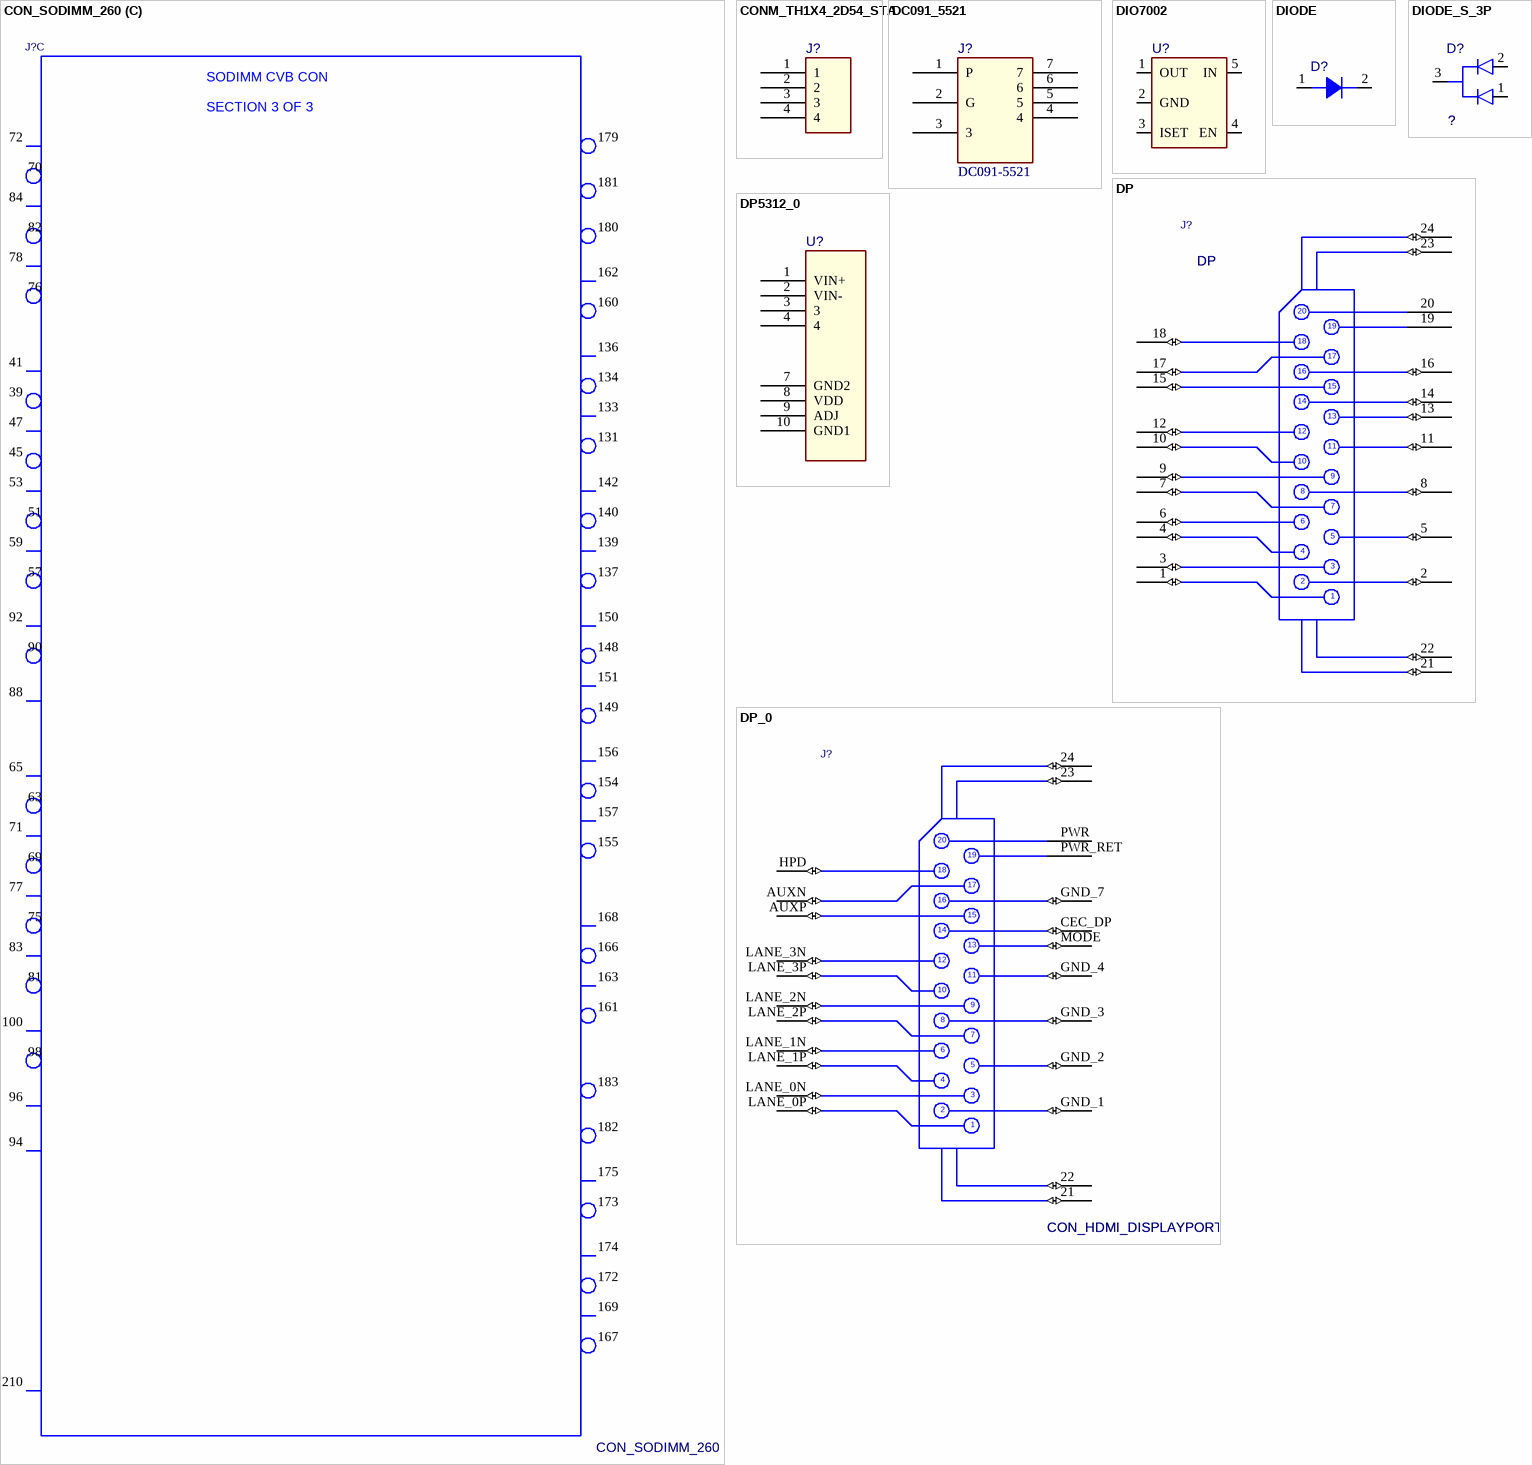
[diagram p9: symbols CON_SODIMM_260 to DP_0]

## CON_SODIMM_260
designator J?
OriginalSymbolOrigin: (-950,2300); ANGLE: ?; ASSEMBLY: ?; EMI_GROUND_TAB: ?; GENDER: ?; LATCHING: ?; MAX_CURRENT: ?; MAX_VOLTAGE: ?; NV_NAME: ?; NV_PN: ?; PACK_TYPE: ?; PATH: ?; PITCH: ?; PLACEMENT_NOTE: ?; REFLOW: ?; SHIELDED: ?; SHROUDED: ?; SKU: COMMON; Value: CON_SODIMM_260
footprint SODIMM_SM260_0D5_78D0X26D1
part A pins: 1 GND1 (io), 2 GND2 (io), 7 GND3 (io), 8 GND4 (io), 13 GND5 (io), 14 GND6 (io), 19 GND7 (io), 20 GND8 (io), 25 GND9 (io), 26 GND10 (io), 31 GND11 (io), 32 GND12 (io), 37 GND13 (io), 38 GND14 (io), 43 GND15 (io), 44 GND16 (io), 49 GND17 (io), 50 GND18 (io), 55 GND19 (io), 56 GND20 (io), 61 GND21 (io), 62 GND22 (io), 67 GND23 (io), 68 GND24 (io), 73 GND25 (io), 74 GND26 (io), 79 GND27 (io), 80 GND28 (io), 85 GND29 (io), 86 GND30 (io), 99 UART3_TXD (io), 101 UART3_RXD (io), 102 GND31 (io), 103 UART3_RTS (io), 105 UART3_CTS (io), 107 GND32 (io), 113 GND33 (io), 119 GND34 (io), 125 GND35 (io), 129 GND36 (io), 132 GND37 (io), 135 GND38 (io), 138 GND39 (io), 141 GND40 (io), 143 CAN_RX (io), 144 GND41 (io), 145 CAN_TX (io), 146 GND42 (io), 147 GND43 (io), 152 GND44 (io), 153 GND45 (io), 158 GND46 (io), 159 GND47 (io), 164 GND48 (io), 165 GND49 (io), 170 GND50 (io), 171 GND51 (io), 176 GND52 (io), 177 GND53 (io), 178 GPIO_PA6 (io), 185 GEN1_I2C_SCL (io), 187 GEN1_I2C_SDA (io), 189 GEN2_I2C_SCL (io), 191 GEN2_I2C_SDA (io), 200 GND54 (io), 201 GND55 (io), 203 UART2_TXD (io), 205 UART2_RXD (io), 207 UART2_RTS (io), 209 UART2_CTS (io), 214 FORCE_RECOVERY* (io), 217 GND56 (io), 231 GND57 (io), 232 GEN3_I2C_SCL (io), 233 SHUTDOWN_REQ* (io), 234 GEN3_I2C_SDA (io), 235 PMIC_BBAT (io), 236 UART1_TXD (io), 237 POWER_EN (io), 238 UART1_RXD (io), 239 SYS_RESET_IN* (io), 240 BUTTON_PWR_ON* (io), 241 GND58 (io), 242 GND59 (io), 243 GND60 (io), 244 GND61 (io), 245 GND62 (io), 246 GND63 (io), 247 GND64 (io), 248 GND65 (io), 249 GND66 (io), 250 GND67 (io), 251 VDD_IN1 (power), 252 VDD_IN2 (power), 253 VDD_IN3 (power), 254 VDD_IN4 (power), 255 VDD_IN5 (power), 256 VDD_IN6 (power), 257 VDD_IN7 (power), 258 VDD_IN8 (power), 259 VDD_IN9 (power), 260 VDD_IN10 (power), 261 MNT1 (io), 262 MNT2 (io)
part B pins: 3 CSI_B_D0_N (io), 4 CSI_A_D0_N (io), 5 CSI_B_D0_P (io), 6 CSI_A_D0_P (io), 9 CSI_B_CLK_N (io), 10 CSI_A_CLK_N (io), 11 CSI_B_CLK_P (io), 12 CSI_A_CLK_P (io), 15 CSI_B_D1_N (io), 16 CSI_A_D1_N (io), 17 CSI_B_D1_P (io), 18 CSI_A_D1_P (io), 21 CSI_F_D0_N (io), 22 CSI_E_D0_N (io), 23 CSI_F_D0_P (io), 24 CSI_E_D0_P (io), 27 CSI_F_CLK_N (io), 28 CSI_E_CLK_N (io), 29 CSI_F_CLK_P (io), 30 CSI_E_CLK_P (io), 33 CSI_F_D1_N (io), 34 CSI_E_D1_N (io), 35 CSI_F_D1_P (io), 36 CSI_E_D1_P (io), 40 CSI_D_D0_N (io), 42 CSI_D_D0_P (io), 46 CSI_C_D0_N (io), 48 CSI_C_D0_P (io), 52 CSI_C_CLK_N (io), 54 CSI_C_CLK_P (io), 58 CSI_C_D1_N (io), 60 CSI_C_D1_P (io), 64 CSI_D_D1_N (io), 66 CSI_D_D1_P (io), 87 USB_VBUS_EN0 (io), 89 SPI1_MOSI (io), 91 SPI1_SCK (io), 93 SPI1_MISO (io), 95 SPI1_CS0 (io), 97 SPI1_CS1 (io), 104 SPI2_MOSI (io), 106 SPI2_SCK (io), 108 SPI2_MISO (io), 109 USB0_DN (io), 110 SPI2_CS0 (io), 111 USB0_DP (io), 112 SPI2_CS1 (io), 114 CAM1_PWDN (io), 115 USB1_DN (io), 116 CAM1_MCLK (io), 117 USB1_DP (io), 118 CAM_AF_EN (io), 120 CAM2_PWDN (io), 121 USB2_DN (io), 122 CAM2_MCLK (io), 123 USB2_DP (io), 124 GPIO_PH6 (io), 126 GPS_EN (io), 127 NFC_INT (io), 128 AP_WAKE_NFC (io), 130 NFC_EN (io), 184 GBE_MDI0_N (io), 186 GBE_MDI0_P (io), 188 GBE_LED0 (io), 190 GBE_MDI1_N (io), 192 GBE_MDI1_P (io), 193 DAP4_DOUT (io), 194 GBE_LED1 (io), 195 DAP4_DIN (io), 196 GBE_MDI2_N (io), 197 DAP4_FS (io), 198 GBE_MDI2_P (io), 199 DAP4_SCLK (io), 202 GBE_MDI3_N (io), 204 GBE_MDI3_P (io), 206 LCD_BL_PWM (io), 208 GPIO_PZ2 (io), 211 AUD_MCLK (io), 212 LCD_BL_EN (io), 213 CAM_I2C_SCL (io), 215 CAM_I2C_SDA (io), 216 GPIO_PZ0 (io), 218 LCD_TE (io), 219 SDMMC3_DAT0 (io), 220 DAP3_DOUT (io), 221 SDMMC3_DAT1 (io), 222 DAP3_DIN (io), 223 SDMMC3_DAT2 (io), 224 DAP3_FS (io), 225 SDMMC3_DAT3 (io), 226 DAP3_SCLK (io), 227 SDMMC3_CMD (io), 228 GPIO_PE6 (io), 229 SDMMC3_CLK (io), 230 GPIO_PE7 (io)
part C pins: 39 EDP_TXD0_N (io), 41 EDP_TXD0_P (io), 45 EDP_TXD1_N (io), 47 EDP_TXD1_P (io), 51 EDP_TXD2_N (io), 53 EDP_TXD2_P (io), 57 EDP_TXD3_N (io), 59 EDP_TXD3_P (io), 63 HDMI_TXD0_N (io), 65 HDMI_TXD0_P (io), 69 HDMI_TXD1_N (io), 70 DSI_A_D0_N (io), 71 HDMI_TXD1_P (io), 72 DSI_A_D0_P (io), 75 HDMI_TXD2_N (io), 76 DSI_A_CLK_N (io), 77 HDMI_TXD2_P (io), 78 DSI_A_CLK_P (io), 81 HDMI_TXC_N (io), 82 DSI_A_D1_N (io), 83 HDMI_TXC_P (io), 84 DSI_A_D1_P (io), 88 DP_HPD (io), 90 DP_AUX_CH0_N (io), 92 DP_AUX_CH0_P (io), 94 HDMI_CEC (io), 96 HDMI_INT_DP_HPD (io), 98 DP_AUX_CH1_N (io), 100 DP_AUX_CH1_P (io), 131 PEX_RX4_N (io), 133 PEX_RX4_P (io), 134 PEX_TX4_N (io), 136 PEX_TX4_P (io), 137 PEX_RX3_N (io), 139 PEX_RX3_P (io), 140 PEX_TX3_N (io), 142 PEX_TX3_P (io), 148 PEX_TX2_N (io), 149 PEX_RX2_N (io), 150 PEX_TX2_P (io), 151 PEX_RX2_P (io), 154 PEX_TX1_N (io), 155 PEX_RX1_N (io), 156 PEX_TX1_P (io), 157 PEX_RX1_P (io), 160 PEX_CLK1_N (io), 161 PEX_RX6_N (io), 162 PEX_CLK1_P (io), 163 PEX_RX6_P (io), 166 PEX_TX6_N (io), 167 PEX_RX0_N (io), 168 PEX_TX6_P (io), 169 PEX_RX0_P (io), 172 PEX_TX0_N (io), 173 PEX_CLK2_N (io), 174 PEX_TX0_P (io), 175 PEX_CLK2_P (io), 179 PEX_WAKE (io), 180 PEX_L0_CLKREQ (io), 181 PEX_L0_RST (io), 182 PEX_L1_CLKREQ (io), 183 PEX_L1_RST (io), 210 CLK_32K_OUT (io)
part A text: SODIMM CVB CON; SECTION 1 OF 3
part B text: SODIMM CVB CON; SECTION 2 OF 3
part C text: SODIMM CVB CON; SECTION 3 OF 3

## CONM_TH1X4_2D54_STA
designator J?
footprint CONM_TH1X4_2D54_STA
pins: 1, 2, 3, 4

## DC091_5521
designator J?, comment DC091-5521
Value: DC091-5521
footprint DC_TH7_13D5x11D45
pins: 1 P, 2 G, 3, 4, 5, 6, 7

## DIO7002
designator U?
footprint SOT23_5
pins: 1 OUT, 2 GND, 3 ISET, 4 EN, 5 IN

## DIODE
designator D?
pins: 1 A, 2 K

## DIODE_S_3P
designator D?, comment ?
OriginalSymbolOrigin: (-50,100); PSPICETEMPLATE: X^@REFDES %a1 %a2 %cc @NV_PN; IMPLEMENTATION_TYPE: Pspice Model; SKU: COMMON; PLACEMENT_NOTE: ?; PATH: ?; PACK_TYPE: ?; NV_PN: ?; NV_NAME: ?; MAX_VOLTAGE: ?; MAX_CURRENT: ?; FORWARD_VOLTAGE: ?; CONTINUOUS_CURRENT: ?; CONFIGURATION: ?; ASSEMBLY: ?; Value: ?
footprint SOT323
simulation model DIODE_S_3P
pins: 1 A1 (io), 2 A2 (io), 3 CC (io)

## DP
designator J?
OriginalSymbolOrigin: (-450,800); SKU: COMMON; SHROUDED: ?; SHIELDED: ?; REFLOW: ?; PLACEMENT_NOTE: ?; PITCH: ?; PATH: ?; PACK_TYPE: ?; NV_PN: ?; NV_NAME: ?; MAX_VOLTAGE: ?; MAX_CURRENT: ?; LATCHING: ?; GENDER: ?; EMI_GROUND_TAB: ?; ASSEMBLY: ?; ANGLE: ?; Value: DP
footprint DP_SM20_17D0X17D0
pins: 1 LANE_0P (io), 2 GND_1 (io), 3 LANE_0N (io), 4 LANE_1P (io), 5 GND_2 (io), 6 LANE_1N (io), 7 LANE_2P (io), 8 GND_3 (io), 9 LANE_2N (io), 10 LANE_3P (io), 11 GND_4 (io), 12 LANE_3N (io), 13 MODE (io), 14 CEC_DP (io), 15 AUXP (io), 16 GND_7 (io), 17 AUXN (io), 18 HPD (io), 19 PWR_RET (power), 20 PWR (power), 21 SHIELD1 (io), 22 SHIELD2 (io), 23 SHIELD3 (io), 24 SHIELD4 (io)

## DP5312_0
designator U?
footprint DP5312
pins: 1 VIN+, 2 VIN-, 3, 4, 7 GND2, 8 VDD, 9 ADJ, 10 GND1

## DP_0
designator J?, comment CON_HDMI_DISPLAYPORT
OriginalSymbolOrigin: (-450,800); SKU: COMMON; SHROUDED: ?; SHIELDED: ?; REFLOW: ?; PLACEMENT_NOTE: ?; PITCH: ?; PATH: ?; PACK_TYPE: ?; NV_PN: ?; NV_NAME: ?; MAX_VOLTAGE: ?; MAX_CURRENT: ?; LATCHING: ?; GENDER: ?; EMI_GROUND_TAB: ?; ASSEMBLY: ?; ANGLE: ?; Value: CON_HDMI_DISPLAYPORT
pins: 21 SHIELD1 (io), 22 SHIELD2 (io), 23 SHIELD3 (io), 24 SHIELD4 (io), AUXN (io), AUXP (io), CEC_DP (io), GND_1 (io), GND_2 (io), GND_3 (io), GND_4 (io), GND_7 (io), HPD (io), LANE_0N (io), LANE_0P (io), LANE_1N (io), LANE_1P (io), LANE_2N (io), LANE_2P (io), LANE_3N (io), LANE_3P (io), MODE (io), PWR (power), PWR_RET (power)
text: 20; 19; 18; 17; 16; 15; 14; 13; 12; 11; 10; 9; 8; 7; 6; 5; 4; 3; 2; 1

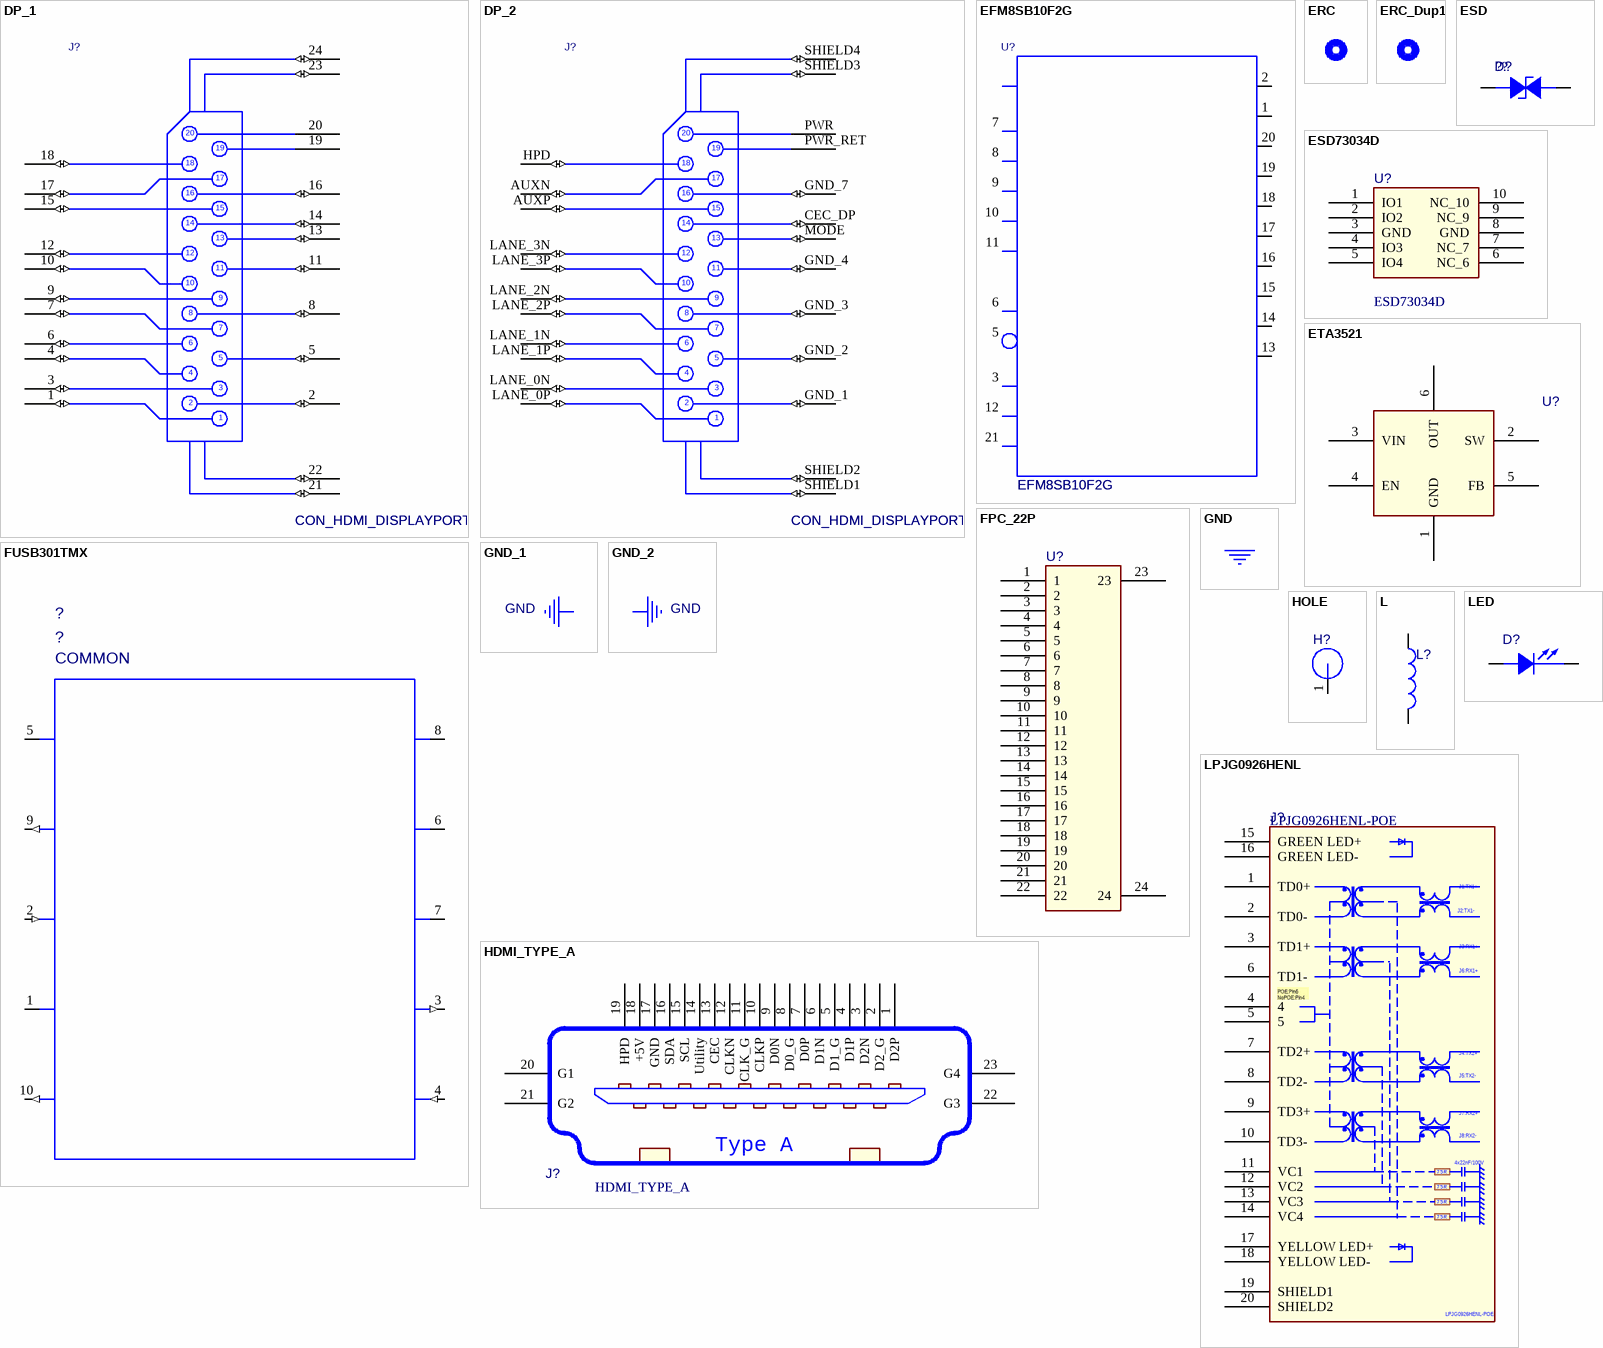
[diagram p10: symbols DP_1 to LPJG0926HENL]

## DP_1
designator J?, comment CON_HDMI_DISPLAYPORT
OriginalSymbolOrigin: (-450,800); SKU: COMMON; SHROUDED: ?; SHIELDED: ?; REFLOW: ?; PLACEMENT_NOTE: ?; PITCH: ?; PATH: ?; PACK_TYPE: ?; NV_PN: ?; NV_NAME: ?; MAX_VOLTAGE: ?; MAX_CURRENT: ?; LATCHING: ?; GENDER: ?; EMI_GROUND_TAB: ?; ASSEMBLY: ?; ANGLE: ?; Value: CON_HDMI_DISPLAYPORT
pins: 1 LANE_0P (io), 2 GND_1 (io), 3 LANE_0N (io), 4 LANE_1P (io), 5 GND_2 (io), 6 LANE_1N (io), 7 LANE_2P (io), 8 GND_3 (io), 9 LANE_2N (io), 10 LANE_3P (io), 11 GND_4 (io), 12 LANE_3N (io), 13 MODE (io), 14 CEC_DP (io), 15 AUXP (io), 16 GND_7 (io), 17 AUXN (io), 18 HPD (io), 19 PWR_RET (power), 20 PWR (power), 21 SHIELD1 (io), 22 SHIELD2 (io), 23 SHIELD3 (io), 24 SHIELD4 (io)

## DP_2
designator J?, comment CON_HDMI_DISPLAYPORT
OriginalSymbolOrigin: (-450,800); ANGLE: ?; ASSEMBLY: ?; EMI_GROUND_TAB: ?; GENDER: ?; LATCHING: ?; MAX_CURRENT: ?; MAX_VOLTAGE: ?; NV_NAME: ?; NV_PN: ?; PACK_TYPE: ?; PATH: ?; PITCH: ?; PLACEMENT_NOTE: ?; REFLOW: ?; SHIELDED: ?; SHROUDED: ?; SKU: COMMON; Value: CON_HDMI_DISPLAYPORT
pins: AUXN (io), AUXP (io), CEC_DP (io), GND_1 (io), GND_2 (io), GND_3 (io), GND_4 (io), GND_7 (io), HPD (io), LANE_0N (io), LANE_0P (io), LANE_1N (io), LANE_1P (io), LANE_2N (io), LANE_2P (io), LANE_3N (io), LANE_3P (io), MODE (io), PWR (power), PWR_RET (power), SHIELD1 (io), SHIELD2 (io), SHIELD3 (io), SHIELD4 (io)
text: 20; 19; 18; 17; 16; 15; 14; 13; 12; 11; 10; 9; 8; 7; 6; 5; 4; 3; 2; 1

## EFM8SB10F2G
designator U?
OriginalSymbolOrigin: (-450,700); TYPE: ?; SKU: COMMON; PLACEMENT_NOTE: ?; PATH: ?; PACK_TYPE: ?; NV_PN: ?; NV_NAME: ?; ASSEMBLY: ?; Value: EFM8SB10F2G
footprint QFN20_0D5_1D8
pins: 1 P0_1 (io), 2 P0_0 (io), 3 GND1 (in), 4 VDD (power) hidden to VDD, 5 RST* (io), 6 P2_7_C2D (io), 7 P1_7 (io), 8 P1_6 (io), 9 P1_5 (io), 10 P1_3 (io), 11 P1_2 (io), 12 GND2 (in), 13 P1_1 (io), 14 P1_0 (io), 15 P0_7 (io), 16 P0_6 (io), 17 P0_5 (io), 18 P0_4 (io), 19 P0_3 (io), 20 P0_2 (io), 21 EPAD (in)

## ERC
designator *  (value not drawn)  (graphical)

## ERC_Dup1
designator *  (value not drawn)  (graphical)

## ESD
designator D?, comment ??
Parameter: ESD-台舟 ESD5341N-封装 esd0402; ID: DE-E0004; Value: ??
footprint DFN1006-2L
pins: 1 ANODE, 2 CATHODE

## ESD73034D
designator U?
Parameter: ESD-ESD73034D-封装 SON10_2R50X1R00X0R50; Value: ESD73034D
footprint XSON10_0D5_1D1X2D6
pins: 1 IO1, 2 IO2, 3 GND (power), 4 IO3, 5 IO4, 6 NC_6, 7 NC_7, 8 GND (power), 9 NC_9, 10 NC_10

## ETA3521
designator U?
footprint SOT563
pins: 1 GND, 2 SW, 3 VIN, 4 EN, 5 FB, 6 OUT

## FPC_22P
designator U?
footprint FPC_22_0D5_LIE_FG
pins: 1, 2, 3, 4, 5, 6, 7, 8, 9, 10, 11, 12, 13, 14, 15, 16, 17, 18, 19, 20, 21, 22, 23, 24

## FUSB301TMX
designator ?, comment SKU: COMMON  (hidden comment: U_USB_FUSB301)
OriginalSymbolOrigin: (-325,400); ASSEMBLY: ?; NV_NAME: ?; NV_PN: ?; PACK_TYPE: ?; PATH: ?; PLACEMENT_NOTE: ?; TYPE: ?; Value: U_USB_FUSB301
pins: 1 SDA (io), 2 SCL (in), 3 ID (out), 4 GND (in), 5 VDD (power), 6 CC1 (io), 7 CC2 (io), 8 VBUS (power), 9 SS_SW (out), 10 INT_N (out)

## GND
designator *  (value not drawn)  (graphical)
pins: $PIN0 (power) hidden to $PIN0

## GND_1
designator *  HDL_POWER: GND  (hidden comment: *)  (graphical)
OriginalSymbolOrigin: (-50,50); VOLTAGE: 0V; BODY_TYPE: PLUMBING; PATH: ?
pins: $PIN0 (power) hidden to $PIN0

## GND_2
designator *  HDL_POWER: GND  (hidden comment: *)  (graphical)
BODY_TYPE: PLUMBING; VOLTAGE: 0V; OriginalSymbolOrigin: (-50,50); PATH: ?
pins: $PIN0 (power) hidden to $PIN0

## HDMI_TYPE_A
designator J?
Parameter: 连接器-HDMI公母-19P/型号：10029449-001RLF-封装 hdmia19_hdmi_01a; Value: HDMI_TYPE_A
pins: 1 D2P, 2 D2_G, 3 D2N, 4 D1P, 5 D1_G, 6 D1N, 7 D0P, 8 D0_G, 9 D0N, 10 CLKP, 11 CLK_G, 12 CLKN, 13 CEC, 14 Utility, 15 SCL, 16 SDA, 17 GND, 18 +5V, 19 HPD, 20 G1, 21 G2, 22 G3, 23 G4
text: Type A

## HOLE
designator H?
footprint H3.8MM
pins: 1

## L
designator L?
pins: 1, 2

## LED
designator D?
pins: 1 ANODE, 2

## LPJG0926HENL
designator J?, comment LPJG0926HENL-POE
Parameter: 连接器-带POE功能的集成变压器RJ45; Value: LPJG0926HENL-POE
footprint RJ45_LED_TH22_LIE
pins: 1 TD0+, 2 TD0-, 3 TD1+, 4, 5, 6 TD1-, 7 TD2+, 8 TD2-, 9 TD3+, 10 TD3-, 11 VC1, 12 VC2, 13 VC3, 14 VC4, 15 GREEN LED+, 16 GREEN LED-, 17 YELLOW LED+, 18 YELLOW LED-, 19 SHIELD1, 20 SHIELD2
text: J1:TX1+; J2:TX1-; J3:RX1+; J6:RX1+; POE:Pin6 / NoPOE:Pin4; J4:TX2+; J5:TX2-; J7:RX2+; J8:RX2-; 4x22nF/100V; 75R

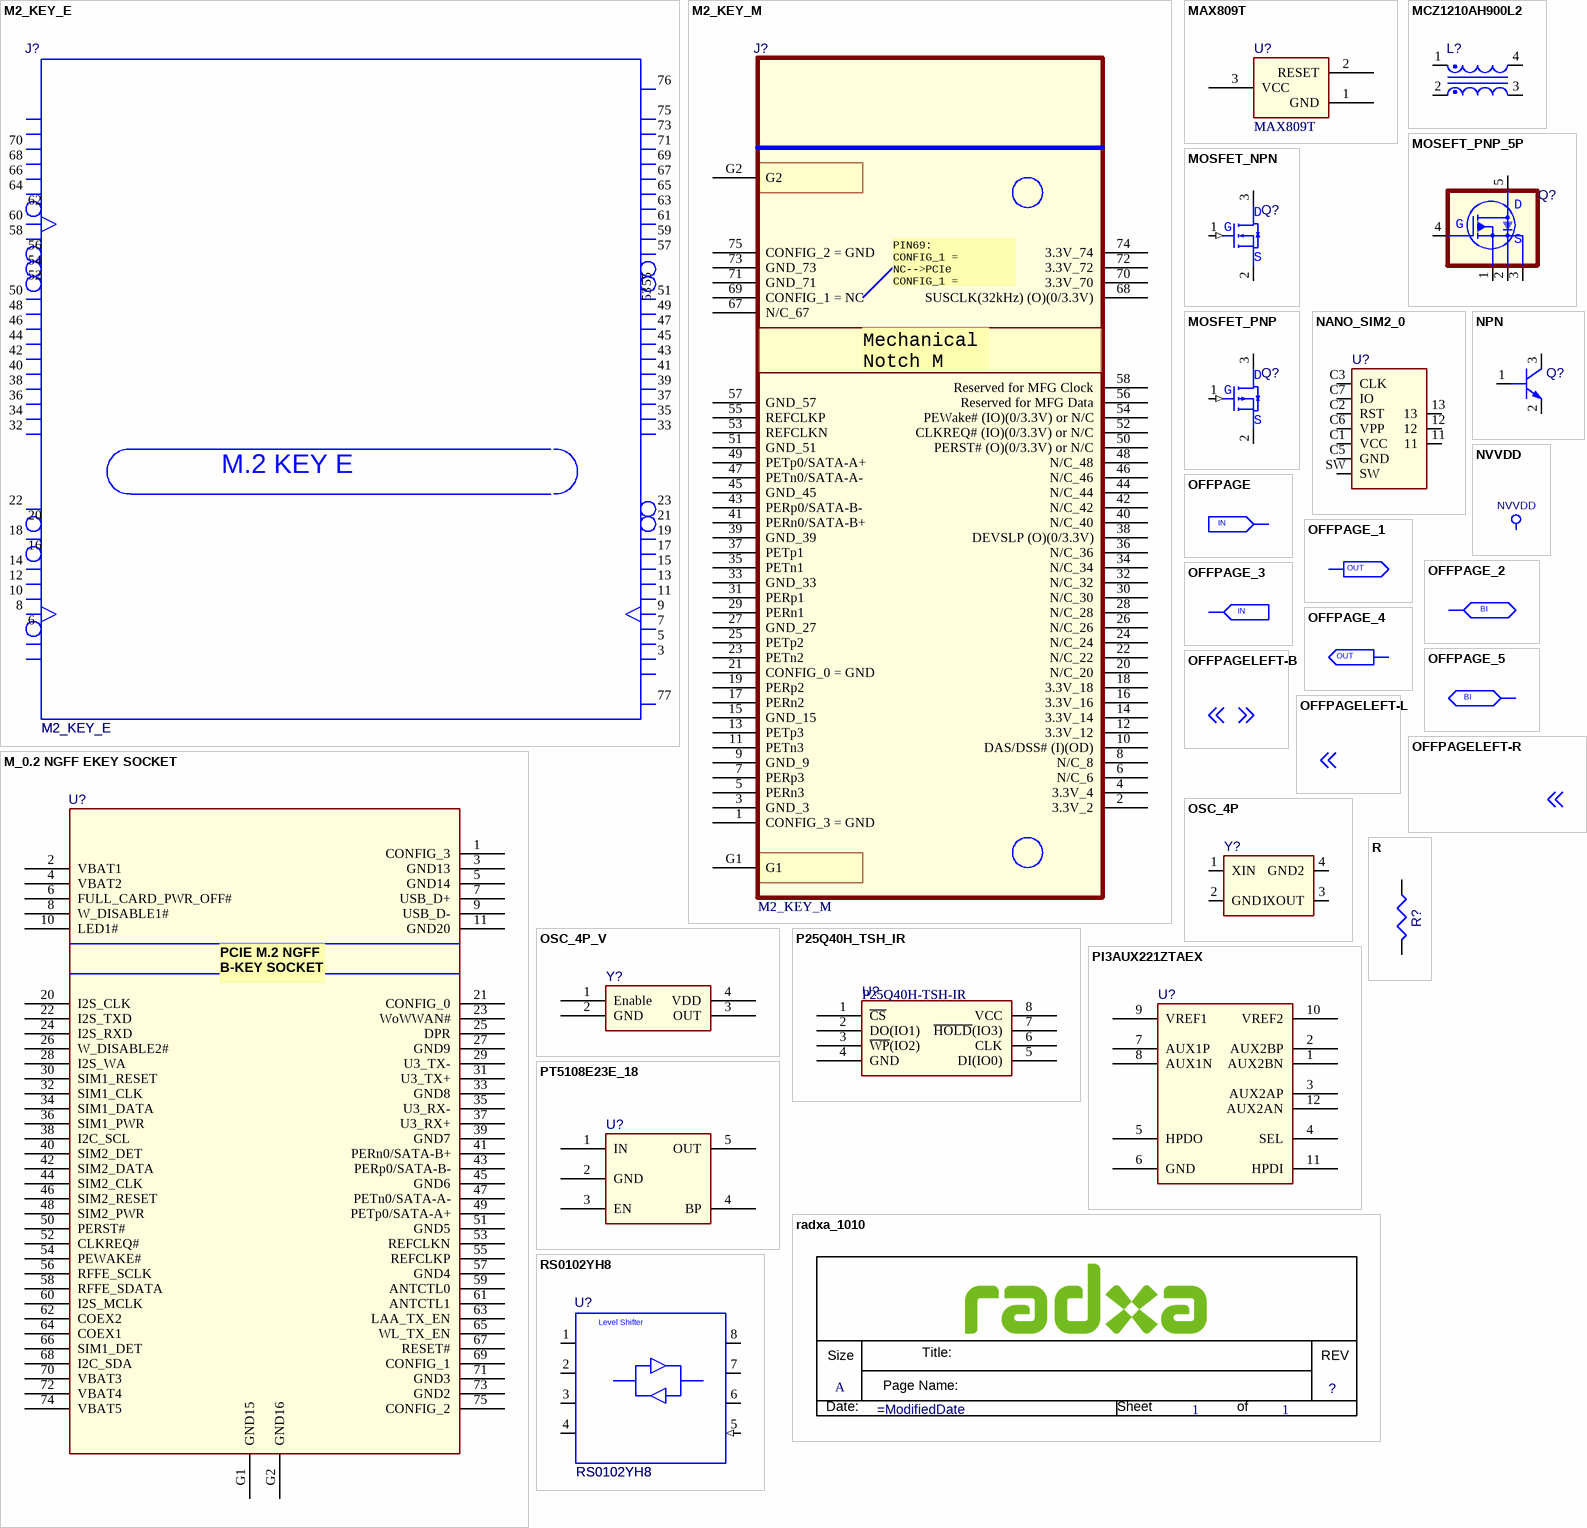
[diagram p11: symbols M2_KEY_E to RS0102YH8]

## M2_KEY_E
designator J?
OriginalSymbolOrigin: (-1050,1100); ANGLE: ?; ASSEMBLY: ?; EMI_GROUND_TAB: ?; GENDER: ?; LATCHING: ?; MAX_CURRENT: ?; MAX_VOLTAGE: ?; NV_NAME: ?; NV_PN: ?; PACK_TYPE: ?; PATH: ?; PITCH: ?; PLACEMENT_NOTE: ?; REFLOW: ?; SHIELDED: ?; SHROUDED: ?; SKU: COMMON; Value: M2_KEY_E
footprint PCIE_E_KEY_SM75_0D5_30
pins: 1 GND_11 (power) hidden to GND_11, 2 3P3V_4 (power) hidden to 3P3V_4, 3 USB_DP (io), 4 3P3V_3 (power) hidden to 3P3V_3, 5 USB_DM (io), 6 LED1* (io), 7 GND_10 (io), 8 PCM_CLK_12S_SCK (io), 9 SDIO_CLK (io), 10 PCM_SYNC_125_WS (io), 11 SDIO_CMD (io), 12 PCM_IN_12S_SD_IN (io), 13 SDIO_DATAO (io), 14 PCM_OUT_12S_SD_OUT (io), 15 SDIO_DATA1 (io), 16 LED2* (io), 17 SDIO_DATA2 (io), 18 GND_9 (io), 19 SDIO_DATA3 (io), 20 UART_WAKE* (io), 21 SDIO_WAKE* (io), 22 UART_RXD (io), 23 SDIO_RESET* (io), 32 UART_TXD (io), 33 GND_8 (io), 34 UART_CTS (io), 35 PETPO (io), 36 UART_RTS (io), 37 PETNO (io), 38 VENDOR_DEFINED_3 (io), 39 GND_7 (io), 40 VENDOR_DEFINED_2 (io), 41 PERPO (io), 42 VENDOR_DEFINED_1 (io), 43 PERNO (io), 44 COEX3 (io), 45 GND_6 (io), 46 COEX2 (io), 47 REFCLKPO (io), 48 COEX1 (io), 49 REFCLKNO (io), 50 SUSCLK_32KHZ (io), 51 GND_5 (io), 52 PERST0* (io), 53 CLKREQO* (io), 54 W_DISABLE2* (io), 55 PEWAKEO* (io), 56 W_DISABLE1* (io), 57 GND_4 (io), 58 I2C_DATA (io), 59 RESERVED_PETP1 (io), 60 I2C_CLK (io), 61 RESERVED_PETN1 (io), 62 ALERT* (io), 63 GND_3 (io), 64 RESERVED (io), 65 RESERVED_PERP1 (io), 66 UIM_SWP_PERST1* (io), 67 RESERVED_PERN1 (io), 68 UIM_POWER_SNK_CLKREQ1* (io), 69 GND_2 (io), 70 UIM_POWER_SRC_GPIO1_PEWAKE1* (io), 71 RESERVED_REFCLKP1 (io), 72 3P3V_2 (power) hidden to 3P3V_2, 73 RESERVED_REFCLKN1 (io), 74 3P3V_1 (power) hidden to 3P3V_1, 75 GND_1 (io), 76 GND_13 (io), 77 GND_12 (io)
text: M.2 KEY E

## M2_KEY_M
designator J?
Parameter: 连接器-比派-封装 M2_KEY_M; Value: M2_KEY_M
footprint M2-M_KEY_SM_75_0D5
pins: 1 CONFIG_3 = GND, 2 3.3V_2, 3 GND_3, 4 3.3V_4, 5 PERn3, 6 N/C_6, 7 PERp3, 8 N/C_8, 9 GND_9, 10 DAS/DSS# (I)(OD), 11 PETn3, 12 3.3V_12, 13 PETp3, 14 3.3V_14, 15 GND_15, 16 3.3V_16, 17 PERn2, 18 3.3V_18, 19 PERp2, 20 N/C_20, 21 CONFIG_0 = GND, 22 N/C_22, 23 PETn2, 24 N/C_24, 25 PETp2, 26 N/C_26, 27 GND_27, 28 N/C_28, 29 PERn1, 30 N/C_30, 31 PERp1, 32 N/C_32, 33 GND_33, 34 N/C_34, 35 PETn1, 36 N/C_36, 37 PETp1, 38 DEVSLP (O)(0/3.3V), 39 GND_39, 40 N/C_40, 41 PERn0/SATA-B+, 42 N/C_42, 43 PERp0/SATA-B-, 44 N/C_44, 45 GND_45, 46 N/C_46, 47 PETn0/SATA-A-, 48 N/C_48, 49 PETp0/SATA-A+, 50 PERST# (O)(0/3.3V) or N/C, 51 GND_51, 52 CLKREQ# (IO)(0/3.3V) or N/C, 53 REFCLKN, 54 PEWake# (IO)(0/3.3V) or N/C, 55 REFCLKP, 56 Reserved for MFG Data, 57 GND_57, 58 Reserved for MFG Clock, 67 N/C_67, 68 SUSCLK(32kHz) (O)(0/3.3V), 69 CONFIG_1 = NC, 70 3.3V_70, 71 GND_71, 72 3.3V_72, 73 GND_73, 74 3.3V_74, 75 CONFIG_2 = GND, G1, G2
text: PIN69: / CONFIG_1 = NC-->PCIe / CONFIG_1 = / GND-->SATA; Mechanical / Notch M

## M_0.2 NGFF EKEY SOCKET
designator U?
pins: 1 CONFIG_3, 2 VBAT1, 3 GND13, 4 VBAT2, 5 GND14, 6 FULL_CARD_PWR_OFF#, 7 USB_D+, 8 W_DISABLE1#, 9 USB_D-, 10 LED1#, 11 GND20, 20 I2S_CLK, 21 CONFIG_0, 22 I2S_TXD, 23 WoWWAN#, 24 I2S_RXD, 25 DPR, 26 W_DISABLE2#, 27 GND9, 28 I2S_WA, 29 U3_TX-, 30 SIM1_RESET, 31 U3_TX+, 32 SIM1_CLK, 33 GND8, 34 SIM1_DATA, 35 U3_RX-, 36 SIM1_PWR, 37 U3_RX+, 38 I2C_SCL, 39 GND7, 40 SIM2_DET, 41 PERn0/SATA-B+, 42 SIM2_DATA, 43 PERp0/SATA-B-, 44 SIM2_CLK, 45 GND6, 46 SIM2_RESET, 47 PETn0/SATA-A-, 48 SIM2_PWR, 49 PETp0/SATA-A+, 50 PERST#, 51 GND5, 52 CLKREQ#, 53 REFCLKN, 54 PEWAKE#, 55 REFCLKP, 56 RFFE_SCLK, 57 GND4, 58 RFFE_SDATA, 59 ANTCTL0, 60 I2S_MCLK, 61 ANTCTL1, 62 COEX2, 63 LAA_TX_EN, 64 COEX1, 65 WL_TX_EN, 66 SIM1_DET, 67 RESET#, 68 I2C_SDA, 69 CONFIG_1, 70 VBAT3, 71 GND3, 72 VBAT4, 73 GND2, 74 VBAT5, 75 CONFIG_2, G1 GND15, G2 GND16
text: PCIE M.2 NGFF / B-KEY SOCKET

## MAX809T
designator U?
Value: MAX809T
footprint SOT_23
pins: 1 GND, 2 RESET, 3 VCC

## MCZ1210AH900L2
designator L?
footprint LC1210
pins: 1, 2, 3, 4

## MOSEFT_PNP_5P
designator Q?
pins: 1 S1, 2 S2, 3 S3, 4 G, 5 D
text: S

## MOSFET_NPN
designator Q?
pins: 1 G (in), 2 S, 3 D

## MOSFET_PNP
designator Q?
pins: 1 G (in), 2 S, 3 D

## NANO_SIM2_0
designator U?
footprint NANO_SIM
pins: 11, 12, 13, C1 VCC, C2 RST, C3 CLK, C5 GND, C6 VPP, C7 IO, SW

## NPN
designator Q?
pins: 1 BASE, 2 EMITTER, 3 COLLECTOR

## NVVDD
designator *  HDL_POWER: NVVDD  (hidden comment: *)  (graphical)
BODY_TYPE: PLUMBING; OriginalSymbolOrigin: (-50,0); PATH: ?
pins: $PIN0 (power) hidden to $PIN0

## OFFPAGE
designator *  (value not drawn)  (graphical)
OFFPAGE: TRUE; OriginalSymbolOrigin: (-150,50); COMMENT_BODY: TRUE
pins: $PIN0 hidden
text: IN

## OFFPAGE_1
designator *  (value not drawn)  (graphical)
OFFPAGE: TRUE; OriginalSymbolOrigin: (-50,50); COMMENT_BODY: TRUE
pins: $PIN0 hidden
text: OUT

## OFFPAGE_2
designator *  (value not drawn)  (graphical)
OFFPAGE: TRUE; OriginalSymbolOrigin: (-50,50); COMMENT_BODY: TRUE
pins: $PIN0 hidden
text: BI

## OFFPAGE_3
designator *  (value not drawn)  (graphical)
OFFPAGE: TRUE; OriginalSymbolOrigin: (-50,50); COMMENT_BODY: TRUE
pins: $PIN0 hidden
text: IN

## OFFPAGE_4
designator *  (value not drawn)  (graphical)
COMMENT_BODY: TRUE; OriginalSymbolOrigin: (-150,50); OFFPAGE: TRUE
pins: $PIN0 hidden
text: OUT

## OFFPAGE_5
designator *  (value not drawn)  (graphical)
OFFPAGE: TRUE; OriginalSymbolOrigin: (-200,50); COMMENT_BODY: TRUE
pins: $PIN0 hidden
text: BI

## OFFPAGELEFT-B
designator *  (value not drawn)  (graphical)
pins: $PIN0 (in) hidden

## OFFPAGELEFT-L
designator *  (value not drawn)  (graphical)
pins: $PIN0 (in) hidden

## OFFPAGELEFT-R
designator *  (value not drawn)  (graphical)
pins: $PIN0 (in) hidden

## OSC_4P
designator Y?
footprint CRY-3225
pins: 1 XIN, 2 GND1, 3 XOUT, 4 GND2

## OSC_4P_V
designator Y?
footprint Y-4-5_08-TXC-7W5
pins: 1 Enable, 2 GND, 3 OUT, 4 VDD

## P25Q40H_TSH_IR
designator U?, comment P25Q40H-TSH-IR
Parameter: SPI flash-比派USB HUB芯片配套flash P25Q40H; Value: P25Q40H-TSH-IR
footprint TSSOP8_0D65_4
pins: 1 ~{CS}, 2 DO(IO1), 3 ~{WP}(IO2), 4 GND (power), 5 DI(IO0), 6 CLK, 7 ~{HOLD}(IO3), 8 VCC (power)

## PI3AUX221ZTAEX
designator U?
pins: 1 AUX2BN, 2 AUX2BP, 3 AUX2AP, 4 SEL, 5 HPDO, 6 GND, 7 AUX1P, 8 AUX1N, 9 VREF1, 10 VREF2, 11 HPDI, 12 AUX2AN

## PT5108E23E_18
designator U?
footprint SOT23_5
pins: 1 IN, 2 GND, 3 EN, 4 BP, 5 OUT

## R
designator R?
footprint R0402
pins: 1, 2

## radxa_1010
designator *  Page Size: A  Page Number: 1  (hidden comment: *)  (graphical)
Page Create Date: March  8, 1995; RevCode: ?; Page Count: 1; Page Modify Date: =ModifiedDate
text: Title:; Size; REV; Page Name:; Date:; Sheet; of

## RS0102YH8
designator U?
PACK_TYPE: DFN8; OriginalSymbolOrigin: (-250,250); ASSEMBLY: ?; FUNCTION: ?; NV_NAME: ?; NV_PN: ?; PATH: ?; PLACEMENT_NOTE: ?; SKU: COMMON; Value: RS0102YH8
footprint SOT23_8
pins: 1 VCCB (power), 2 B1 (io), 3 B2 (io), 4 OE (io), 5 GND (in), 6 A2 (io), 7 A1 (io), 8 VCCA (power)
text: Level Shifter

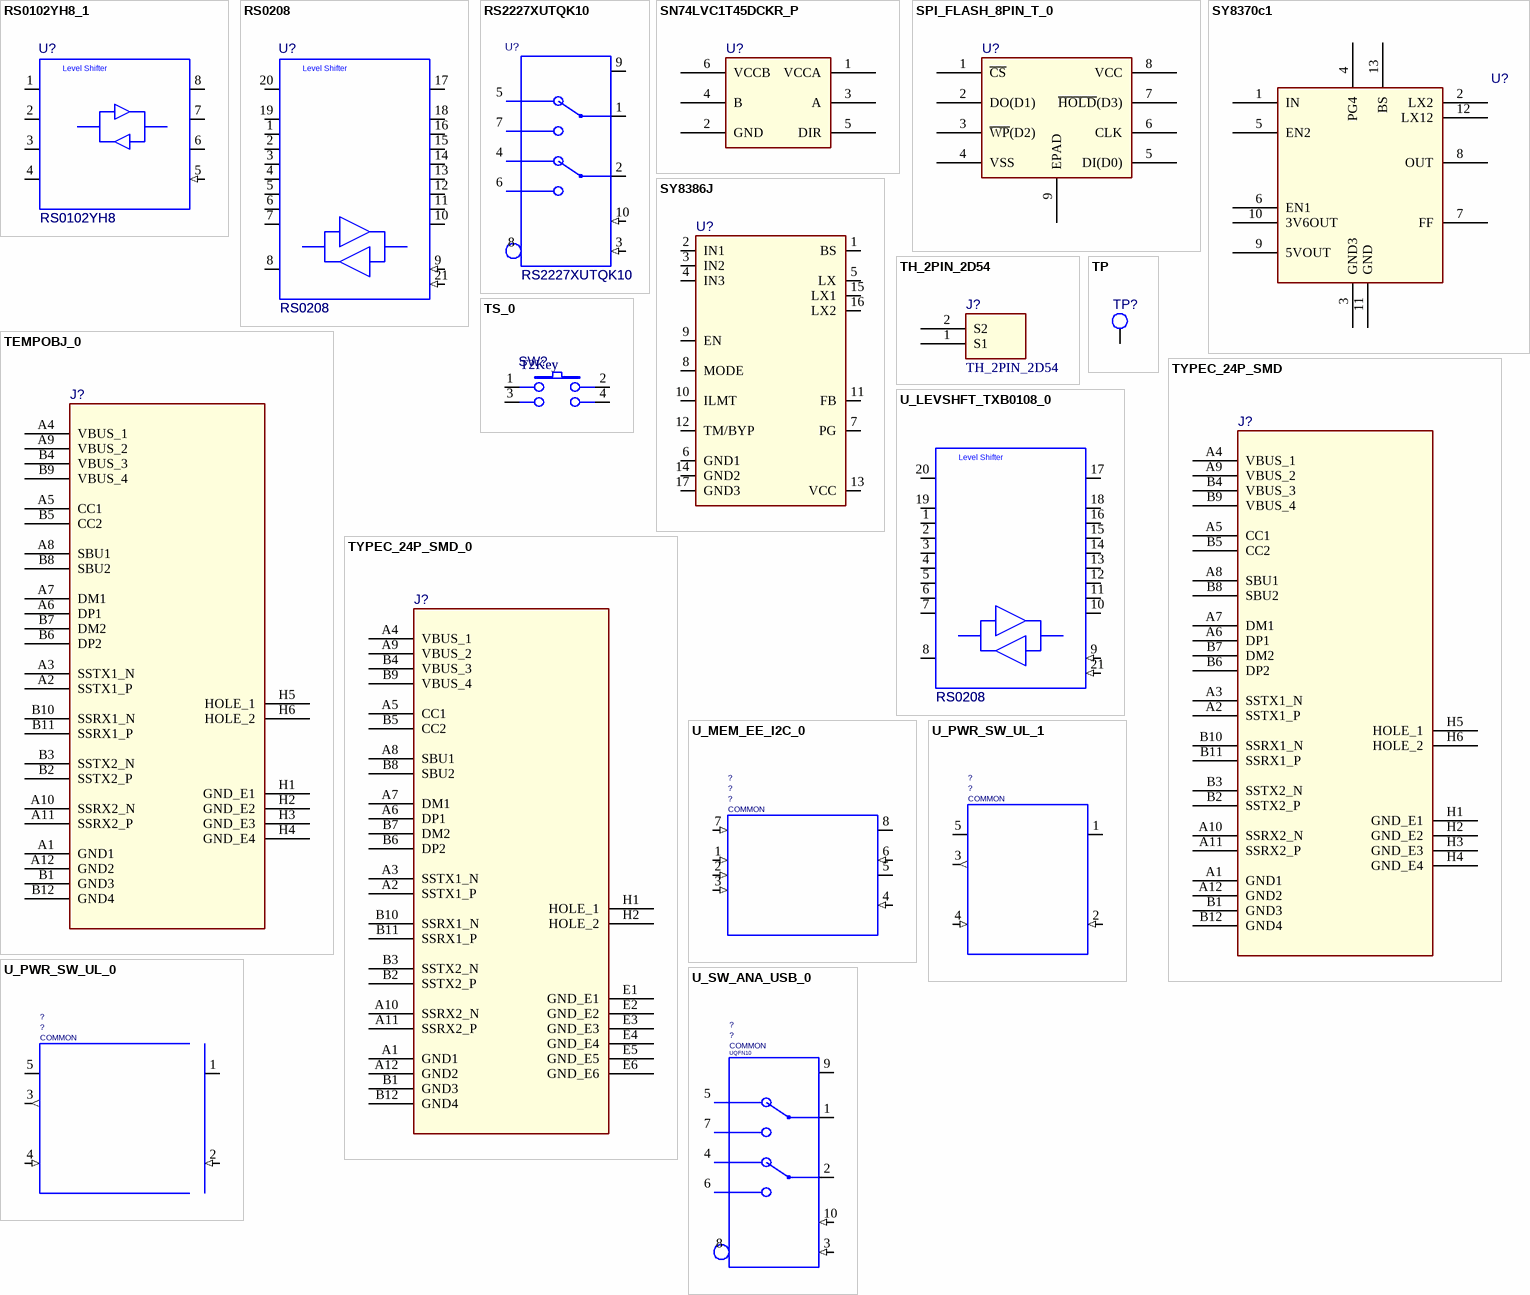
[diagram p12: symbols RS0102YH8_1 to U_SW_ANA_USB_0]

## RS0102YH8_1
designator U?, comment RS0102YH8
OriginalSymbolOrigin: (-250,250); PACK_TYPE: DFN8; SKU: COMMON; PLACEMENT_NOTE: ?; PATH: ?; NV_PN: ?; NV_NAME: ?; FUNCTION: ?; ASSEMBLY: ?; Value: RS0102YH8
footprint SOT23_8
pins: 1 VCCB (power), 2 B1 (io), 3 B2 (io), 4 OE (io), 5 GND (in), 6 A2 (io), 7 A1 (io), 8 VCCA (power)
text: Level Shifter